# Altium schematic symbol library SchlibLafe.SchLib: 395 symbols (part 3 of 4)
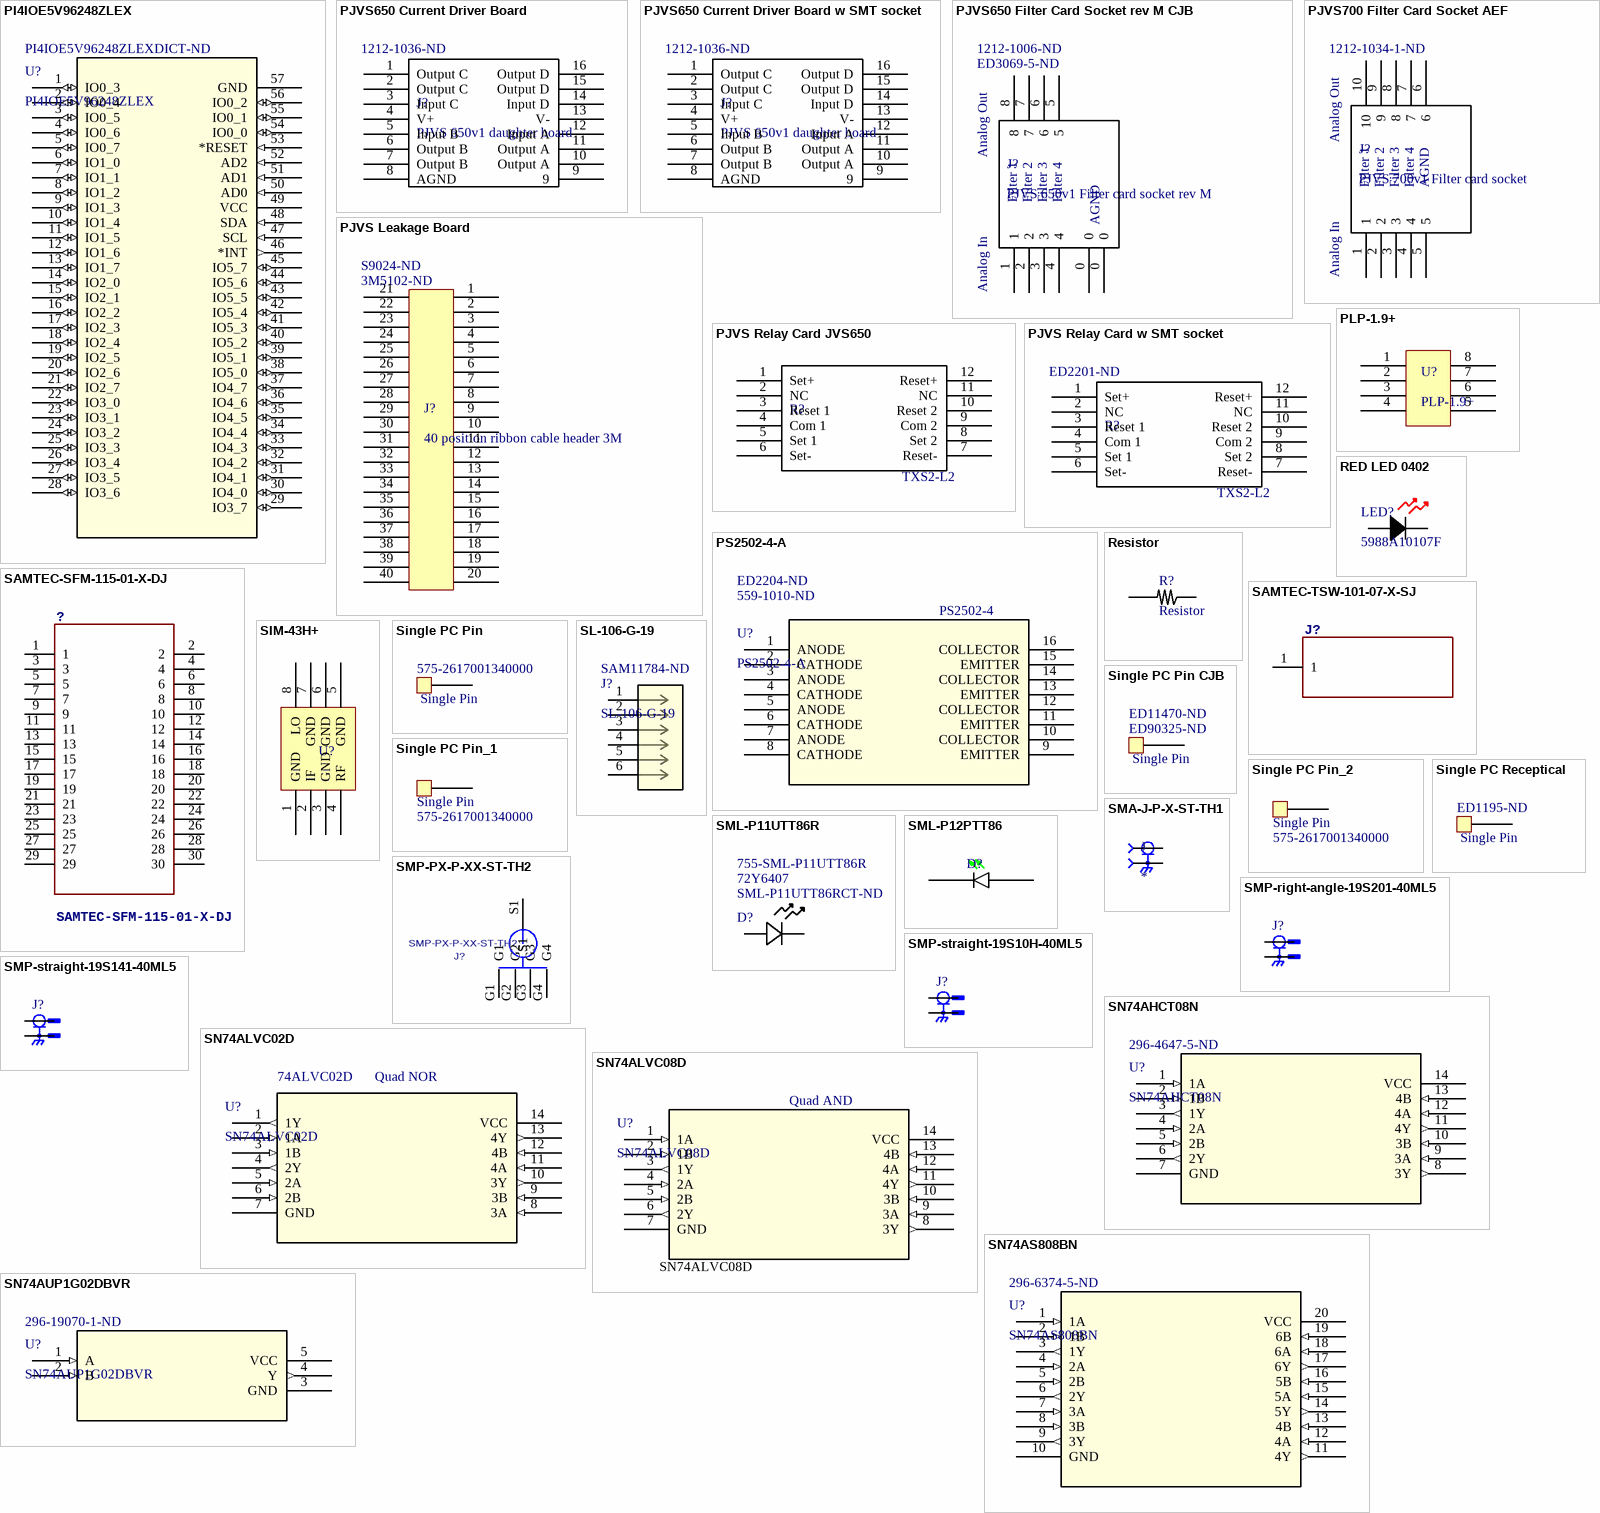
[diagram p14: symbols PI4IOE5V96248ZLEX to SN74AUP1G02DBVR]

## PI4IOE5V96248ZLEX
designator U?  Supplier Part Number 1: PI4IOE5V96248ZLEXDICT-ND
48 bit DIO expander; Vendor: Diodes Inc; Built_By: EMA_Cory; SourceLibrary: Add_to_database_2021-03-05; Datasheet: https://www.diodes.com/assets/Datasheets/PI4IOE5V96248.pdf; Manufacturer_Part_Number: PI4IOE5V96248ZLEX; Copyright: Copyright (C) 2018 Accelerated Designs. All rights reserved; RefDes: RefDes; Type: DEV; Supplier 1: Digi-Key
footprint TQFN56_ZL_DIO
pins: 1 IO0_3 (io), 2 IO0_4 (io), 3 IO0_5 (io), 4 IO0_6 (io), 5 IO0_7 (io), 6 IO1_0 (io), 7 IO1_1 (io), 8 IO1_2 (io), 9 IO1_3 (io), 10 IO1_4 (io), 11 IO1_5 (io), 12 IO1_6 (io), 13 IO1_7 (io), 14 IO2_0 (io), 15 IO2_1 (io), 16 IO2_2 (io), 17 IO2_3 (io), 18 IO2_4 (io), 19 IO2_5 (io), 20 IO2_6 (io), 21 IO2_7 (io), 22 IO3_0 (io), 23 IO3_1 (io), 24 IO3_2 (io), 25 IO3_3 (io), 26 IO3_4 (io), 27 IO3_5 (io), 28 IO3_6 (io), 29 IO3_7 (io), 30 IO4_0 (io), 31 IO4_1 (io), 32 IO4_2 (io), 33 IO4_3 (io), 34 IO4_4 (io), 35 IO4_5 (io), 36 IO4_6 (io), 37 IO4_7 (io), 38 IO5_0 (io), 39 IO5_1 (io), 40 IO5_2 (io), 41 IO5_3 (io), 42 IO5_4 (io), 43 IO5_5 (io), 44 IO5_6 (io), 45 IO5_7 (io), 46 *INT (out), 47 SCL (in), 48 SDA (in), 49 VCC (power), 50 AD0 (in), 51 AD1 (in), 52 AD2 (in), 53 *RESET (in), 54 IO0_0 (io), 55 IO0_1 (io), 56 IO0_2 (io), 57 GND

## PJVS650 Current Driver Board
designator J?, comment PJVS 650v1 daughter board  Supplier Part Number 1: 1212-1036-ND
Supplier 1: Digi-Key
footprint PJVS650 Current Driver (PJVS650 Current Driver Daughter board)
pins: 1 Output C, 2 Output C, 3 Input C, 4 V+, 5 Input B, 6 Output B, 7 Output B, 8 AGND, 9, 10 Output A, 11 Output A, 12 Input A, 13 V-, 14 Input D, 15 Output D, 16 Output D

## PJVS650 Current Driver Board w SMT socket
designator J?, comment PJVS 650v1 daughter board  Supplier Part Number 1: 1212-1036-ND
Supplier 1: Digi-Key
footprint PJVS650 Current Driver SMT (PJVS650 Current Driver Daughter board SMT)
pins: 1 Output C, 2 Output C, 3 Input C, 4 V+, 5 Input B, 6 Output B, 7 Output B, 8 AGND, 9, 10 Output A, 11 Output A, 12 Input A, 13 V-, 14 Input D, 15 Output D, 16 Output D

## PJVS650 Filter Card Socket rev M CJB
designator J?, comment PJVS 650v1 Filter card socket rev M  Supplier Part Number 1: ED3069-5-ND  Supplier Part Number 2: 1212-1006-ND
Supplier 1: Digi-Key; Supplier 2: Digi-Key
footprint PJVS650 Filter Card Socket rev M
pins: 0, 0, 1, 2, 3, 4, 5, 6, 7, 8
text: Analog Out; Filter 1; Filter 2; Filter 3; Filter 4; AGND; Analog In

## PJVS700 Filter Card Socket AEF
designator J?, comment PJVS 700v1 Filter card socket  Supplier Part Number 1: 1212-1034-1-ND
JVS700 filter with SMT socket; Supplier 1: Digi-Key
footprint PJVS650 Filter Card Socket SMT (PJVS650 Filter Card Socket with SMT)
pins: 1, 2, 3, 4, 5, 6, 7, 8, 9, 10
text: Analog Out; Filter 1; Filter 2; Filter 3; Filter 4; AGND; Analog In

## PJVS Leakage Board
designator J?, comment 40 position ribbon cable header 3M  Supplier Part Number 1: 3M5102-ND  Supplier Part Number 2: S9024-ND
ribbon cable header, 0.79mil; Supplier 1: Digi-Key; Supplier 2: Digi-Key
footprint PJVS Leakage Board (JVS650 Automated Leakage Board)
pins: 1, 2, 3, 4, 5, 6, 7, 8, 9, 10, 11, 12, 13, 14, 15, 16, 17, 18, 19, 20, 21, 22, 23, 24, 25, 26, 27, 28, 29, 30, 31, 32, 33, 34, 35, 36, 37, 38, 39, 40

## PJVS Relay Card JVS650
designator R?, comment PJVS Relay Card  (value not drawn)
footprint PJVS_relay_card (PJVS relay card)
pins: 1 Set+, 2 NC, 3 Reset 1, 4 Com 1, 5 Set 1, 6 Set-, 7 Reset-, 8 Set 2, 9 Com 2, 10 Reset 2, 11 NC, 12 Reset+
text: TXS2-L2

## PJVS Relay Card w SMT socket
designator R?, comment Supplier Part Number 1: ED2201-ND  (hidden comment: PJVS Relay Card)
Supplier 1: Digi-Key
footprint PJVS_relay_card - SMT socket A (PJVS relay card)
footprint PJVS_relay_card - SMT socket B (PJVS relay card)
pins: 1 Set+, 2 NC, 3 Reset 1, 4 Com 1, 5 Set 1, 6 Set-, 7 Reset-, 8 Set 2, 9 Com 2, 10 Reset 2, 11 NC, 12 Reset+
text: TXS2-L2

## PLP-1.9+
designator U?
Minicircuits PLP-1.9+
footprint PLP-1.9
pins: 1, 2, 3, 4, 5, 6, 7, 8

## PS2502-4-A
designator U?  Supplier Part Number 1: 559-1010-ND  Supplier Part Number 2: ED2204-ND
quad darlington optocoupler; Vendor: Renesas Electronics; Built_By: EMA_Anthony; SourceLibrary: Add_to_database_2021-03-30; Datasheet: https://www.renesas.com/us/en/document/dst/ps2502-1-ps2502-4-ps2502l-1-ps2502l-4-data-sheet; Copyright: Copyright (C) 2018 Accelerated Designs. All rights reserved; Manufacturer_Part_Number: PS2502-4-A; RefDes: RefDes; Type: DEV; Supplier 1: Digi-Key; Supplier 2: Digi-Key
footprint DIP16_socket_surfacemount
pins: 1 ANODE, 2 CATHODE, 3 ANODE, 4 CATHODE, 5 ANODE, 6 CATHODE, 7 ANODE, 8 CATHODE, 9 EMITTER, 10 COLLECTOR, 11 EMITTER, 12 COLLECTOR, 13 EMITTER, 14 COLLECTOR, 15 EMITTER, 16 COLLECTOR
text: PS2502-4

## RED LED 0402
designator LED?, comment 5988A10107F
Red 635nm LED Indication - Discrete 1.6V 0402 (1005 Metric); Mfr_Name: Dialight; Type: DEV; Notes: Cathode to line; Desc_Value: LED RED 635NM 0402 SMD; Copyright: Copyright (C) 2023 Ultra Librarian. All rights reserved.; Manufacturer_Part_Number: 5988A10107F; RefDes: RefDes; Supplier 1: Digi-Key; Supplier Part Number 1: 350-4446-1-ND; Vendor URL: https://www.digikey.com/en/products/detail/dialight/5988A10107F/10108962; Package: 0402; Mounting Type: SMT
footprint LED_5988A10107F_DIA
pins: 1, 2

## Resistor
designator R?
footprint thruhole resistor
pins: 1, 2

## SAMTEC-SFM-115-01-X-DJ
designator ?
footprint SAMTEC-SFM-115-01-X-D
pins: 1, 2, 3, 4, 5, 6, 7, 8, 9, 10, 11, 12, 13, 14, 15, 16, 17, 18, 19, 20, 21, 22, 23, 24, 25, 26, 27, 28, 29, 30

## SAMTEC-TSW-101-07-X-SJ
designator J?
footprint SAMTEC-TSW-101-07-X-S (Footprint not found)
pins: 1

## SIM-43H+
designator U?
RF Mixer IC Cellular, ISM, PCN, VSAT, WCDMA 1GHz ~ 4GHz; Supplier 1: Digi-Key; Supplier Part Number 1: 3157-SIM-43H+CT-ND
footprint SIM-43H+
pins: 1 GND, 2 IF, 3 GND, 4 RF, 5 GND, 6 GND, 7 GND, 8 LO

## Single PC Pin
designator J?, comment Single Pin  Supplier Part Number 1: 575-2617001340000
Supplier 1: Mouser
footprint Single PC Pin
pins: 1

## Single PC Pin CJB
designator J?, comment Single Pin  Supplier Part Number 1: ED90325-ND  Supplier Part Number 2: ED11470-ND
Charlie's Single Pin 20 mil; Supplier 1: Digi-Key; Supplier 2: Digi-Key
footprint Single PC Pin - duplicate
pins: 1

## Single PC Pin_1
designator J?, comment Single Pin  Supplier Part Number 1: 575-2617001340000
Supplier 1: Mouser
footprint Single PC Pin
pins: 1

## Single PC Pin_2
designator J?, comment Single Pin  Supplier Part Number 1: 575-2617001340000
Supplier 1: Mouser
footprint Single PC Pin
pins: 1

## Single PC Receptical
designator J?, comment Single Pin  Supplier Part Number 1: ED1195-ND
Supplier 1: Digi-Key
footprint Single PC Pin
pins: 1

## SL-106-G-19
designator J?  Supplier Part Number 1: SAM11784-ND
6 position female header socket; Mfr_Name: Samtec Inc; Copyright: Copyright (C) 2021 Ultra Librarian. All rights reserved.; Manufacturer_Part_Number: SL-106-G-19; Digi-Key_Part_Number_1: SAM11784-ND; RefDes: RefDes; Type: DEV; Supplier 1: Digi-Key
footprint CON6_1X6_TU_DSL_SAI
pins: 1, 2, 3, 4, 5, 6

## SMA-J-P-X-ST-TH1
designator J
SMA Connector Jack, Female Socket 50Ohm Through Hole Solder; MF: Samtec; MP: SMA-J-P-H-ST-TH1; Package: None; Value: *; Price: None; Toby_UK-Purchase-URL: https://snapeda.com/shop?store=Toby+UK&id=134499; DigiKey-Purchase-URL: https://snapeda.com/shop?store=DigiKey&id=134499; Availability: Unavailable; SnapEDA_Link: https://www.snapeda.com/parts/SMA-J-P-H-ST-TH1/Samtec%20Inc./view-part/134499/?ref=snap; Supplier 1: Newark; Supplier Part Number 1: 90W0187
footprint SAMTEC_SMA-J-P-X-ST-TH1
pins: ctr, gnd

## SML-P11UTT86R
designator D?  Supplier Part Number 1: SML-P11UTT86RCT-ND  Supplier Part Number 2: 72Y6407  Supplier Part Number 3: 755-SML-P11UTT86R  (hidden comment: SML-P11UTT86R)
Red LED 1mA; Mfr_Name: ROHM Semiconductor; Type: DEV; Copyright: Copyright (C) 2021 Ultra Librarian. All rights reserved.; Manufacturer_Part_Number: SML-P11UTT86R; Digi-Key_Part_Number_1: SML-P11UTT86RCT-ND; Digi-Key_Part_Number_2: SML-P11UTT86RDKR-ND; Digi-Key_Part_Number_3: SML-P11UTT86RTR-ND; RefDes: RefDes; Supplier 1: Digi-Key; Supplier 2: Newark; Supplier 3: Mouser
footprint LED_SML-P11D_ROM
pins: 1, 2

## SML-P12PTT86
designator D?
Green 560nm LED Indication - Discrete 2.2V 0402 (1006 Metric); Manufacturer_Part_Number: SML-P12PTT86; Mfr_name: Rohm Semiconductor; MF: {'manufacturer': u'Rohm'}; Desc_Value: LED GREEN CLEAR 1006 SMD; Notes: Cathode to dot; Package: 0402; Price: None; Value: *; Availability: Unavailable; Supplier 1: Digi-Key; Supplier Part Number 1: 846-SML-P12PTT86CT-ND; Vendor URL: https://www.digikey.com/en/products/detail/rohm-semiconductor/SML-P12PTT86/1643118; Mounting Type: SMA
footprint LED_SML-P11UTT86R
pins: A, C

## SMP-PX-P-XX-ST-TH2
designator J?
SMP THROUGH HOLE PLUG - 50 OHM.; MANUFACTURER: SAMTEC; CREATED: October 23, 2015 - Wendy Xin; PCB DECAL: SMP-PX-P-XX-ST-TH2
footprint SMP-PF-P-XX-ST-TH2
pins: G1, G2, G3, G4, S1

## SMP-right-angle-19S201-40ML5
designator J?
SMOOTH BORE SMP Connector Plug, Male Pin 50Ohm Surface Mount Solder; MP: 853050232; MF: Molex; Check_prices: https://www.snapeda.com/parts/853050232/Molex/view-part/?ref=eda; Value: *; Availability: In Stock; Price: None; Package: None; SnapEDA_Link: https://www.snapeda.com/parts/853050232/Molex/view-part/?ref=snap; Purchase-URL: https://pricing.snapeda.com/search/part/853050232/?ref=eda; Supplier 1: Mouser; Supplier Part Number 1: 476-19S201-40ML5
footprint rosenberger-19S201-40ML5
pins: 1, gnd

## SMP-straight-19S10H-40ML5
designator J?
LIMITED DETENT SMP Connector Plug, Male Pin 50Ohm Surface Mount Solder; MP: 853050232; MF: Molex; Check_prices: https://www.snapeda.com/parts/853050232/Molex/view-part/?ref=eda; Value: *; Availability: In Stock; Price: None; Package: None; SnapEDA_Link: https://www.snapeda.com/parts/853050232/Molex/view-part/?ref=snap; Purchase-URL: https://pricing.snapeda.com/search/part/853050232/?ref=eda; Supplier 1: Digikey; Supplier Part Number 1: 1868-1125-1-ND
footprint rosenberger-19S141-40ML5
pins: 1, gnd

## SMP-straight-19S141-40ML5
designator J?
SMP Connector Plug, Male Pin 50Ohm Surface Mount Solder; MP: 853050232; MF: Molex; Check_prices: https://www.snapeda.com/parts/853050232/Molex/view-part/?ref=eda; Value: *; Availability: In Stock; Price: None; Package: None; SnapEDA_Link: https://www.snapeda.com/parts/853050232/Molex/view-part/?ref=snap; Purchase-URL: https://pricing.snapeda.com/search/part/853050232/?ref=eda; Supplier 1: Mouser; Supplier Part Number 1: 476-19S201-40ML5
footprint rosenberger-19S141-40ML5
pins: 1, gnd

## SN74AHCT08N
designator U?  Supplier Part Number 1: 296-4647-5-ND
Quadruple 2-Input Positive-AND Gates; Manufacturer: Texas Instruments; INDUSTRY_STD_PKG_TYPE: PDIP; PIN_COUNT: 14; PACKAGE_DESIGNATOR: N; Datasheet_URL: http://www.ti.com/lit/gpn/SN74AHCT08; FAMILY_NAME: AND GATE; GENERIC_PART_NUMBER: SN74AHCT08; Copyright: Copyright (C) 2021 Accelerated Designs. All rights reserved; RefDes: RefDes; Type: DEV; Supplier 1: Digi-Key
footprint N14
pins: 1 1A (in), 2 1B (in), 3 1Y (out), 4 2A (in), 5 2B (in), 6 2Y (out), 7 GND (power), 8 3Y (out), 9 3A (in), 10 3B (in), 11 4Y (out), 12 4A (in), 13 4B (in), 14 VCC (power)

## SN74ALVC02D
designator U?
NOR gate; Mfr_Name: Texas Instruments; Manufacturer_Part_Number: SN74ALVC08D; Copyright: Copyright (C) 2021 Ultra Librarian. All rights reserved.; Digi-Key_Part_Number_1: 296-26433-5-ND; Digi-Key_Part_Number_2: 2156-SN74ALVC08D-ND; RefDes: RefDes; Type: DEV; Supplier 1: Avnet; Supplier 2: Avnet; Supplier Part Number 2: 74ALVC02D,118; Supplier Part Number 1: 74ALVC02D,118
footprint D14
pins: 1 1Y (out), 2 1A (in), 3 1B (in), 4 2Y (out), 5 2A (in), 6 2B (in), 7 GND (power), 8 3A (in), 9 3B (in), 10 3Y (out), 11 4A (in), 12 4B (in), 13 4Y (out), 14 VCC (power)
text: 74ALVC02D; Quad NOR

## SN74ALVC08D
designator U?
AND gate; Mfr_Name: Texas Instruments; Copyright: Copyright (C) 2021 Ultra Librarian. All rights reserved.; Digi-Key_Part_Number_1: 296-26433-5-ND; Digi-Key_Part_Number_2: 2156-SN74ALVC08D-ND; RefDes: RefDes; Type: DEV; Supplier 1: Digi-Key; Supplier Part Number 1: 296-5108-1-ND; Manufacturer_Part_Number: SN74ALVC08D
footprint D14
pins: 1 1A (in), 2 1B (in), 3 1Y (out), 4 2A (in), 5 2B (in), 6 2Y (out), 7 GND (power), 8 3Y (out), 9 3A (in), 10 3B (in), 11 4Y (out), 12 4A (in), 13 4B (in), 14 VCC (power)
text: Quad AND

## SN74AS808BN
designator U?  Supplier Part Number 1: 296-6374-5-ND
Hex 2-Input AND Drivers; Manufacturer: Texas Instruments; INDUSTRY_STD_PKG_TYPE: PDIP; FAMILY_NAME: AND GATE; PIN_COUNT: 20; PACKAGE_DESIGNATOR: N; Datasheet_URL: http://www.ti.com/lit/gpn/SN74AS808B; GENERIC_PART_NUMBER: SN74AS808B; Copyright: Copyright (C) 2021 Accelerated Designs. All rights reserved; RefDes: RefDes; Type: DEV; Supplier 1: Digi-Key
footprint N20
pins: 1 1A (in), 2 1B (in), 3 1Y (out), 4 2A (in), 5 2B (in), 6 2Y (out), 7 3A (in), 8 3B (in), 9 3Y (out), 10 GND (power), 11 4Y (out), 12 4A (in), 13 4B (in), 14 5Y (out), 15 5A (in), 16 5B (in), 17 6Y (out), 18 6A (in), 19 6B (in), 20 VCC (power)

## SN74AUP1G02DBVR
designator U?  Supplier Part Number 1: 296-19070-1-ND
Single NOR Gate; Mfr_Name: Texas Instruments; Copyright: Copyright (C) 2021 Ultra Librarian. All rights reserved.; Manufacturer_Part_Number: SN74AUP1G02DBVR; Digi-Key_Part_Number_1: 296-19070-1-ND; Digi-Key_Part_Number_2: 296-19070-2-ND; Digi-Key_Part_Number_3: 296-19070-6-ND; Digi-Key_Part_Number_4: 2156-SN74AUP1G02DBVR-ND; RefDes: RefDes; Type: DEV; Supplier 1: Digi-Key
footprint DBV5-M
pins: 1 A (in), 2 B (in), 3 GND (power), 4 Y (out), 5 VCC (power)

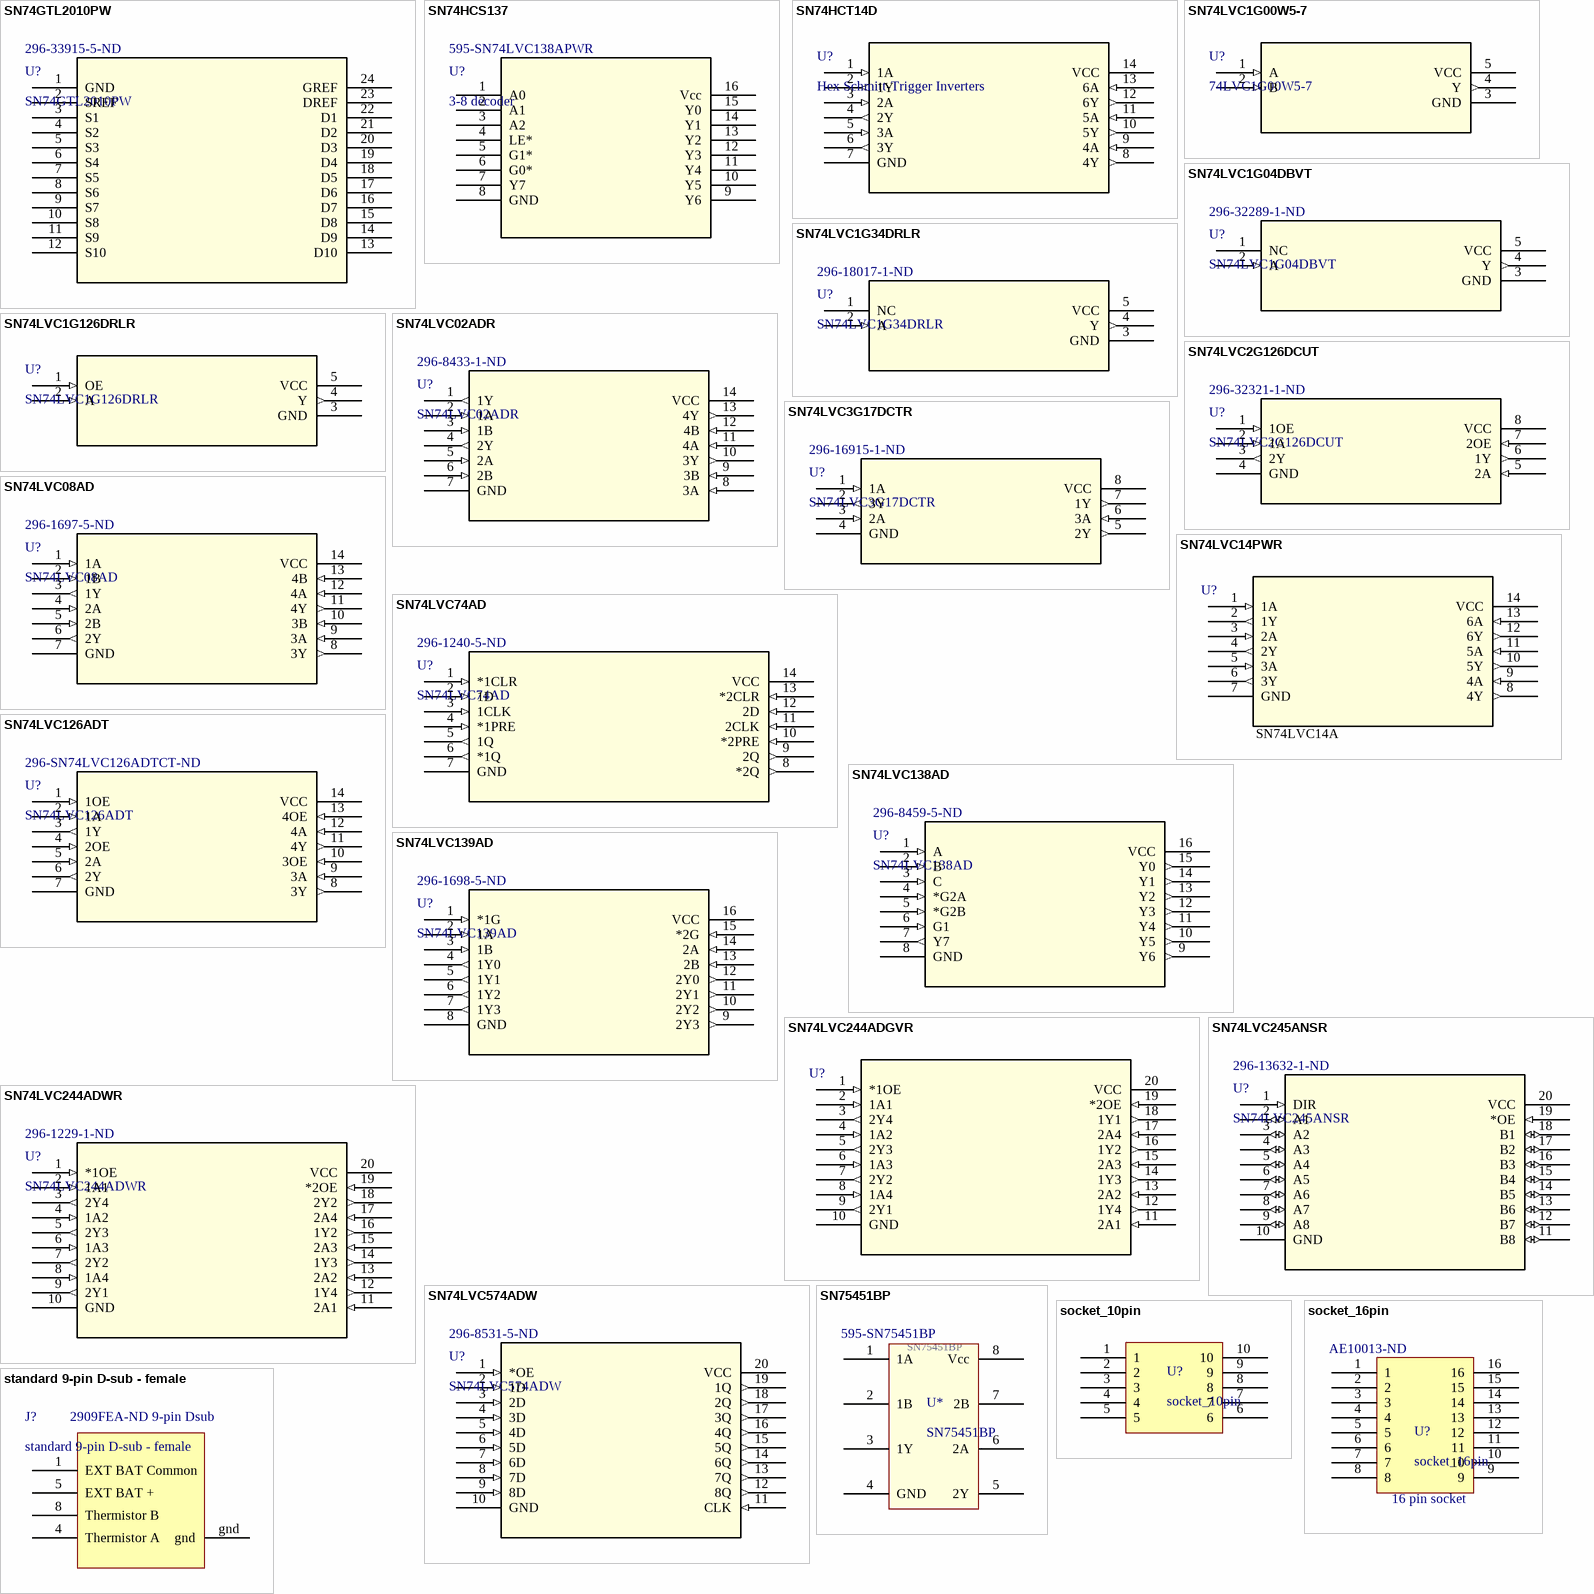
[diagram p9: symbols SN74GTL2010PW to standard 9-pin D-sub - female]

## SN74GTL2010PW
designator U?  Supplier Part Number 1: 296-33915-5-ND
10-Bit Voltage Clamp; Manufacturer: Texas Instruments; INDUSTRY_STD_PKG_TYPE: TSSOP; FAMILY_NAME: TTL/GTL/Open Drain FET Type Bidirectional Translator; PIN_COUNT: 24; PACKAGE_DESIGNATOR: PW; Datasheet_URL: http://www.ti.com/lit/gpn/SN74GTL2010; GENERIC_PART_NUMBER: SN74GTL2010; Vendor: Texas Instruments; Manufacturer_Part_Number: SN74GTL2010PW; Copyright: Copyright (C) 2021 Accelerated Designs. All rights reserved; RefDes: RefDes; Type: DEV; Supplier 1: Digi-Key
footprint PW24
pins: 1 GND (power), 2 SREF (power), 3 S1, 4 S2, 5 S3, 6 S4, 7 S5, 8 S6, 9 S7, 10 S8, 11 S9, 12 S10, 13 D10, 14 D9, 15 D8, 16 D7, 17 D6, 18 D5, 19 D4, 20 D3, 21 D2, 22 D1, 23 DREF (power), 24 GREF (power)

## SN74HCS137
designator U?, comment 3-8 decoder  Supplier Part Number 1: 595-SN74LVC138APWR
Manufacturer_Part_Number: ULN2803A; Vendor: STMicroelectronics; Built_By: EMA_UL_Team; Copyright: Copyright (C) 2018 Accelerated Designs. All rights reserved; RefDes: RefDes; Type: DEV; Value: Value; Supplier 1: Mouser
footprint TSSOP16
pins: 1 A0, 2 A1, 3 A2, 4 LE*, 5 G1*, 6 G0*, 7 Y7, 8 GND, 9 Y6, 10 Y5, 11 Y4, 12 Y3, 13 Y2, 14 Y1, 15 Y0, 16 Vcc

## SN74HCT14D
designator U?, comment Hex Schmitt-Trigger Inverters
Manufacturer: Texas Instruments; GENERIC_PART_NUMBER: SN74HCT14; INDUSTRY_STD_PKG_TYPE: SOIC; FAMILY_NAME: INVERTING BUFFER/DRIVER; PIN_COUNT: 14; PACKAGE_DESIGNATOR: D; Datasheet_URL: http://www.ti.com/lit/gpn/SN74HCT14; Copyright: Copyright (C) 2021 Accelerated Designs. All rights reserved; RefDes: RefDes; Type: DEV; Supplier 1: Digi-Key; Supplier Part Number 1: 296-8391-5-ND
footprint D14
pins: 1 1A (in), 2 1Y (out), 3 2A (in), 4 2Y (out), 5 3A (in), 6 3Y (out), 7 GND (power), 8 4Y (out), 9 4A (in), 10 5Y (out), 11 5A (in), 12 6Y (out), 13 6A (in), 14 VCC (power)

## SN74LVC1G00W5-7
designator U?, comment 74LVC1G00W5-7
Single NAND; Mfr_Name: Diodes Inc; Copyright: Copyright (C) 2021 Ultra Librarian. All rights reserved.; Manufacturer_Part_Number: 74LVC1G00W5-7; Digi-Key_Part_Number_1: 1034-74LVC1G00W5-7DICT-ND; Digi-Key_Part_Number_2: 1034-74LVC1G00W5-7DIDKR-ND; Digi-Key_Part_Number_3: 74LVC1G00W5-7DICT-ND; Digi-Key_Part_Number_4: 74LVC1G00W5-7DIDKR-ND; Digi-Key_Part_Number_5: 74LVC1G00W5-7DITR-ND; RefDes: RefDes; Type: DEV; Supplier 1: Digi-Key; Supplier Part Number 1: 74LVC1G00W5-7DICT-ND
footprint SOT25_DIO
pins: 1 A (in), 2 B (in), 3 GND (power), 4 Y (out), 5 VCC (power)

## SN74LVC1G04DBVT
designator U?  Supplier Part Number 1: 296-32289-1-ND
Single NOT gate; Mfr_Name: Texas Instruments; Copyright: Copyright (C) 2021 Ultra Librarian. All rights reserved.; Manufacturer_Part_Number: SN74LVC1G04DBVT; Digi-Key_Part_Number_1: 296-32289-1-ND; Digi-Key_Part_Number_2: 296-32289-2-ND; Digi-Key_Part_Number_3: 296-32289-6-ND; Digi-Key_Part_Number_4: 2156-SN74LVC1G04DBVT-ND; RefDes: RefDes; Type: DEV; Supplier 1: Digi-Key
footprint DBV5-M
pins: 1 NC, 2 A (in), 3 GND (power), 4 Y (out), 5 VCC (power)

## SN74LVC1G34DRLR
designator U?  Supplier Part Number 1: 296-18017-1-ND
Single Buffer Gate; Mfr_Name: Texas Instruments; Copyright: Copyright (C) 2021 Ultra Librarian. All rights reserved.; Manufacturer_Part_Number: SN74LVC1G34DRLR; Digi-Key_Part_Number_1: 296-18017-1-ND; Digi-Key_Part_Number_2: 296-18017-2-ND; Digi-Key_Part_Number_3: 296-18017-6-ND; Digi-Key_Part_Number_4: 2156-SN74LVC1G34DRLR-ND; RefDes: RefDes; Type: DEV; Supplier 1: Digi-Key
footprint DRL5
pins: 1 NC, 2 A (in), 3 GND (power), 4 Y (out), 5 VCC (power)

## SN74LVC1G126DRLR
designator U?
Single channel buffer; Mfr_Name: Texas Instruments; Copyright: Copyright (C) 2021 Ultra Librarian. All rights reserved.; Manufacturer_Part_Number: SN74LVC1G126DRLR; Digi-Key_Part_Number_1: 296-18013-1-ND; Digi-Key_Part_Number_2: 296-18013-2-ND; Digi-Key_Part_Number_3: 296-18013-6-ND; Digi-Key_Part_Number_4: 2156-SN74LVC1G126DRLR-ND; RefDes: RefDes; Type: DEV; Supplier 1: Digi-Key; Supplier Part Number 1: 296-18013-1-ND
footprint DRL5
pins: 1 OE (in), 2 A (in), 3 GND (power), 4 Y (out), 5 VCC (power)

## SN74LVC02ADR
designator U?  Supplier Part Number 1: 296-8433-1-ND
Quadruple 2-Input Positive-NOR Gate; Manufacturer: Texas Instruments; INDUSTRY_STD_PKG_TYPE: SOIC; PIN_COUNT: 14; PACKAGE_DESIGNATOR: D; Datasheet_URL: http://www.ti.com/lit/gpn/SN74LVC02A; FAMILY_NAME: NOR GATE; GENERIC_PART_NUMBER: SN74LVC02A; Copyright: Copyright (C) 2021 Accelerated Designs. All rights reserved; RefDes: RefDes; Type: DEV; Supplier 1: Digi-Key
footprint D14
pins: 1 1Y (out), 2 1A (in), 3 1B (in), 4 2Y (out), 5 2A (in), 6 2B (in), 7 GND (power), 8 3A (in), 9 3B (in), 10 3Y (out), 11 4A (in), 12 4B (in), 13 4Y (out), 14 VCC (power)

## SN74LVC2G126DCUT
designator U?  Supplier Part Number 1: 296-32321-1-ND
Dual noninverting buffer; Mfr_Name: Texas Instruments; Copyright: Copyright (C) 2021 Ultra Librarian. All rights reserved.; Manufacturer_Part_Number: SN74LVC2G126DCUT; Digi-Key_Part_Number_1: 296-32321-1-ND; Digi-Key_Part_Number_2: 296-32321-2-ND; Digi-Key_Part_Number_3: 296-32321-6-ND; Digi-Key_Part_Number_4: 2156-SN74LVC2G126DCUT-ND; RefDes: RefDes; Type: DEV; Supplier 1: Digi-Key
footprint DCU8-M
pins: 1 1OE (in), 2 1A (in), 3 2Y (out), 4 GND (power), 5 2A (in), 6 1Y (out), 7 2OE (in), 8 VCC (power)

## SN74LVC3G17DCTR
designator U?  Supplier Part Number 1: 296-16915-1-ND
non-inverting schmitt trigger; Mfr_Name: Texas Instruments; Copyright: Copyright (C) 2021 Ultra Librarian. All rights reserved.; Manufacturer_Part_Number: SN74LVC3G17DCTR; Digi-Key_Part_Number_1: 296-16915-1-ND; Digi-Key_Part_Number_2: 296-16915-2-ND; Digi-Key_Part_Number_3: 296-16915-6-ND; RefDes: RefDes; Type: DEV; Supplier 1: Digi-Key
footprint DCT8
pins: 1 1A (in), 2 3Y (out), 3 2A (in), 4 GND (power), 5 2Y (out), 6 3A (in), 7 1Y (out), 8 VCC (power)

## SN74LVC08AD
designator U?  Supplier Part Number 1: 296-1697-5-ND
Quad AND; Mfr_Name: Texas Instruments; Copyright: Copyright (C) 2021 Ultra Librarian. All rights reserved.; Manufacturer_Part_Number: SN74LVC08AD; Digi-Key_Part_Number_1: 296-1697-5-ND; Digi-Key_Part_Number_2: 2156-SN74LVC08AD-ND; RefDes: RefDes; Type: DEV; Supplier 1: Digi-Key
footprint D14
pins: 1 1A (in), 2 1B (in), 3 1Y (out), 4 2A (in), 5 2B (in), 6 2Y (out), 7 GND (power), 8 3Y (out), 9 3A (in), 10 3B (in), 11 4Y (out), 12 4A (in), 13 4B (in), 14 VCC (power)

## SN74LVC14PWR
designator U?  GENERIC_PART_NUMBER: SN74LVC14A  (hidden comment: SN74LVC14PWR)
Hex Schmitt-Trigger Inverter; Manufacturer: Texas Instruments; Manufacturer_Part_Number: SN74LVC14APW; INDUSTRY_STD_PKG_TYPE: TSSOP; FAMILY_NAME: INVERTING BUFFER/DRIVER; PIN_COUNT: 14; PACKAGE_DESIGNATOR: PW; Datasheet_URL: http://www.ti.com/lit/gpn/SN74LVC14A; Vendor: Texas Instruments; Copyright: Copyright (C) 2021 Accelerated Designs. All rights reserved; RefDes: RefDes; Type: DEV; Supplier 1: Digi-Key; Supplier Part Number 1: 296-5121-1-ND
footprint PW14
pins: 1 1A (in), 2 1Y (out), 3 2A (in), 4 2Y (out), 5 3A (in), 6 3Y (out), 7 GND (power), 8 4Y (out), 9 4A (in), 10 5Y (out), 11 5A (in), 12 6Y (out), 13 6A (in), 14 VCC (power)

## SN74LVC74AD
designator U?  Supplier Part Number 1: 296-1240-5-ND
Dual Positive-Edge-Triggered D-Type Flip-Flops With Clear and Preset; Mfr_Name: Texas Instruments; Copyright: Copyright (C) 2021 Ultra Librarian. All rights reserved.; Manufacturer_Part_Number: SN74LVC74AD; Digi-Key_Part_Number_1: 296-1240-5-ND; Digi-Key_Part_Number_2: 2156-SN74LVC74AD-ND; RefDes: RefDes; Type: DEV; Supplier 1: Digi-Key
footprint D14
pins: 1 *1CLR (in), 2 1D (in), 3 1CLK (in), 4 *1PRE (in), 5 1Q (out), 6 *1Q (out), 7 GND (power), 8 *2Q (out), 9 2Q (out), 10 *2PRE (in), 11 2CLK (in), 12 2D (in), 13 *2CLR (in), 14 VCC (power)

## SN74LVC126ADT
designator U?  Supplier Part Number 1: 296-SN74LVC126ADTCT-ND
Quad bus buffer; Mfr_Name: Texas Instruments; Manufacturer_Part_Number: SN74LVC126ADR; Copyright: Copyright (C) 2021 Ultra Librarian. All rights reserved.; Digi-Key_Part_Number_1: 296-8457-1-ND; Digi-Key_Part_Number_2: 296-8457-2-ND; Digi-Key_Part_Number_3: 296-8457-6-ND; Digi-Key_Part_Number_4: 2156-SN74LVC126ADR-ND; RefDes: RefDes; Type: DEV; Supplier 1: Digi-Key
footprint D14
pins: 1 1OE (in), 2 1A (in), 3 1Y (out), 4 2OE (in), 5 2A (in), 6 2Y (out), 7 GND (power), 8 3Y (out), 9 3A (in), 10 3OE (in), 11 4Y (out), 12 4A (in), 13 4OE (in), 14 VCC (power)

## SN74LVC138AD
designator U?  Supplier Part Number 1: 296-8459-5-ND
3:8 line decoder; Mfr_Name: Texas Instruments; Copyright: Copyright (C) 2022 Ultra Librarian. All rights reserved.; Manufacturer_Part_Number: SN74LVC138AD; Digi-Key_Part_Number_1: 296-8459-5-ND; Digi-Key_Part_Number_2: 2156-SN74LVC138AD-ND; RefDes: RefDes; Type: DEV; Supplier 1: Digi-Key
footprint D16
pins: 1 A (in), 2 B (in), 3 C (in), 4 *G2A (in), 5 *G2B (in), 6 G1 (in), 7 Y7 (out), 8 GND (power), 9 Y6 (out), 10 Y5 (out), 11 Y4 (out), 12 Y3 (out), 13 Y2 (out), 14 Y1 (out), 15 Y0 (out), 16 VCC (power)

## SN74LVC139AD
designator U?  Supplier Part Number 1: 296-1698-5-ND
2:4 line decoder; Mfr_Name: Texas Instruments; Copyright: Copyright (C) 2022 Ultra Librarian. All rights reserved.; Manufacturer_Part_Number: SN74LVC139AD; Digi-Key_Part_Number_1: 296-1698-5-ND; Digi-Key_Part_Number_2: 2156-SN74LVC139AD-ND; RefDes: RefDes; Type: DEV; Supplier 1: Digi-Key
footprint D16
pins: 1 *1G (in), 2 1A (in), 3 1B (in), 4 1Y0 (out), 5 1Y1 (out), 6 1Y2 (out), 7 1Y3 (out), 8 GND (power), 9 2Y3 (out), 10 2Y2 (out), 11 2Y1 (out), 12 2Y0 (out), 13 2B (in), 14 2A (in), 15 *2G (in), 16 VCC (power)

## SN74LVC244ADGVR
designator U?  (value not drawn)
Octal Buffer/Driver With 3-State Outputs; Manufacturer: Texas Instruments; INDUSTRY_STD_PKG_TYPE: TVSOP; FAMILY_NAME: NON-INVERTING BUFFER/DRIVER; PIN_COUNT: 20; PACKAGE_DESIGNATOR: DGV; Datasheet_URL: http://www.ti.com/lit/gpn/SN74LVC244A; GENERIC_PART_NUMBER: SN74LVC244A; Vendor: Texas Instruments; Manufacturer_Part_Number: SN74LVC244ADGVR; Copyright: Copyright (C) 2021 Accelerated Designs. All rights reserved; RefDes: RefDes; Type: DEV; Supplier 1: Digi-Key; Supplier Part Number 1: 296-8500-1-ND
footprint DGV20
pins: 1 *1OE (in), 2 1A1 (in), 3 2Y4 (out), 4 1A2 (in), 5 2Y3 (out), 6 1A3 (in), 7 2Y2 (out), 8 1A4 (in), 9 2Y1 (out), 10 GND (power), 11 2A1 (in), 12 1Y4 (out), 13 2A2 (in), 14 1Y3 (out), 15 2A3 (in), 16 1Y2 (out), 17 2A4 (in), 18 1Y1 (out), 19 *2OE (in), 20 VCC (power)

## SN74LVC244ADWR
designator U?  Supplier Part Number 1: 296-1229-1-ND
No Description Available; Mfr_Name: Texas Instruments; Copyright: Copyright (C) 2021 Ultra Librarian. All rights reserved.; Manufacturer_Part_Number: SN74LVC244ADWR; Digi-Key_Part_Number_1: 296-1229-1-ND; Digi-Key_Part_Number_2: 296-1229-2-ND; Digi-Key_Part_Number_3: 296-1229-6-ND; Digi-Key_Part_Number_4: 2156-SN74LVC244ADWR-ND; RefDes: RefDes; Type: DEV; Supplier 1: Digi-Key
footprint DW20
pins: 1 *1OE (in), 2 1A1 (in), 3 2Y4 (out), 4 1A2 (in), 5 2Y3 (out), 6 1A3 (in), 7 2Y2 (out), 8 1A4 (in), 9 2Y1 (out), 10 GND (power), 11 2A1 (in), 12 1Y4 (out), 13 2A2 (in), 14 1Y3 (out), 15 2A3 (in), 16 1Y2 (out), 17 2A4 (in), 18 2Y2 (out), 19 *2OE (in), 20 VCC (power)

## SN74LVC245ANSR
designator U?  Supplier Part Number 1: 296-13632-1-ND
Octal Bus Transceiver With 3-State Outputs; Manufacturer: Texas Instruments; INDUSTRY_STD_PKG_TYPE: SO; FAMILY_NAME: STANDARD TRANSCEIVER; PIN_COUNT: 20; PACKAGE_DESIGNATOR: NS; Datasheet_URL: http://www.ti.com/lit/gpn/SN74LVC245A; GENERIC_PART_NUMBER: SN74LVC245A; Vendor: Texas Instruments; Manufacturer_Part_Number: SN74LVC245ANSR; Copyright: Copyright (C) 2021 Accelerated Designs. All rights reserved; RefDes: RefDes; Type: DEV; Supplier 1: Digi-Key
footprint NS20
pins: 1 DIR (in), 2 A1 (io), 3 A2 (io), 4 A3 (io), 5 A4 (io), 6 A5 (io), 7 A6 (io), 8 A7 (io), 9 A8 (io), 10 GND (power), 11 B8 (io), 12 B7 (io), 13 B6 (io), 14 B5 (io), 15 B4 (io), 16 B3 (io), 17 B2 (io), 18 B1 (io), 19 *OE (in), 20 VCC (power)

## SN74LVC574ADW
designator U?  Supplier Part Number 1: 296-8531-5-ND
Octal Edge-Triggered D-Type Flip-Flop With 3-State Outputs; Manufacturer: Texas Instruments; INDUSTRY_STD_PKG_TYPE: SOIC; FAMILY_NAME: D-TYPE(3-STATE)FLIP-FLOP; PIN_COUNT: 20; PACKAGE_DESIGNATOR: DW; Datasheet_URL: http://www.ti.com/lit/gpn/SN74LVC574A; GENERIC_PART_NUMBER: SN74LVC574A; Vendor: Texas Instruments; Manufacturer_Part_Number: SN74LVC574ADW; Copyright: Copyright (C) 2021 Accelerated Designs. All rights reserved; RefDes: RefDes; Type: DEV; Supplier 1: Digi-Key
footprint DW20
pins: 1 *OE (in), 2 1D (in), 3 2D (in), 4 3D (in), 5 4D (in), 6 5D (in), 7 6D (in), 8 7D (in), 9 8D (in), 10 GND (power), 11 CLK (in), 12 8Q (out), 13 7Q (out), 14 6Q (out), 15 5Q (out), 16 4Q (out), 17 3Q (out), 18 2Q (out), 19 1Q (out), 20 VCC (power)

## SN75451BP
designator U*  Supplier Part Number 1: 595-SN75451BP
SN7545BP; Manu: TI; Voltage: 5V; P/N (Mouser): 595-SN75451BP; Package: PDIP; Supplier 1: Mouser
footprint TI-P8 (DIP, 8-Leads, Body 9.59x6.35mm, Pitch 2.54mm)
pins: 1 1A, 2 1B, 3 1Y, 4 GND, 5 2Y, 6 2A, 7 2B, 8 Vcc

## socket_10pin
designator U?
10 pin socket; Supplier 1: Digi-Key; Supplier Part Number 1: 1212-1006-ND
footprint DIP10
pins: 1, 2, 3, 4, 5, 6, 7, 8, 9, 10

## socket_16pin
designator U?  Supplier Part Number 1: AE10013-ND
16 pin socket; Supplier 1: Digi-Key
footprint DIP16_socket
pins: 1, 2, 3, 4, 5, 6, 7, 8, 9, 10, 11, 12, 13, 14, 15, 16

## standard 9-pin D-sub - female
designator J?  Supplier Part Number 1: 2909FEA-ND 9-pin Dsub
9 pin dsub; Supplier 1: Digi-Key
footprint Standard 9 pin D-sub - female (NorComp 172-E09-213R911)
3D model 172-E09-213 (PCB3D Model)
pins: 1 EXT BAT Common, 2 hidden, 3 hidden, 4 Thermistor A, 5 EXT BAT +, 6 hidden, 7 hidden, 8 Thermistor B, 9 hidden, gnd

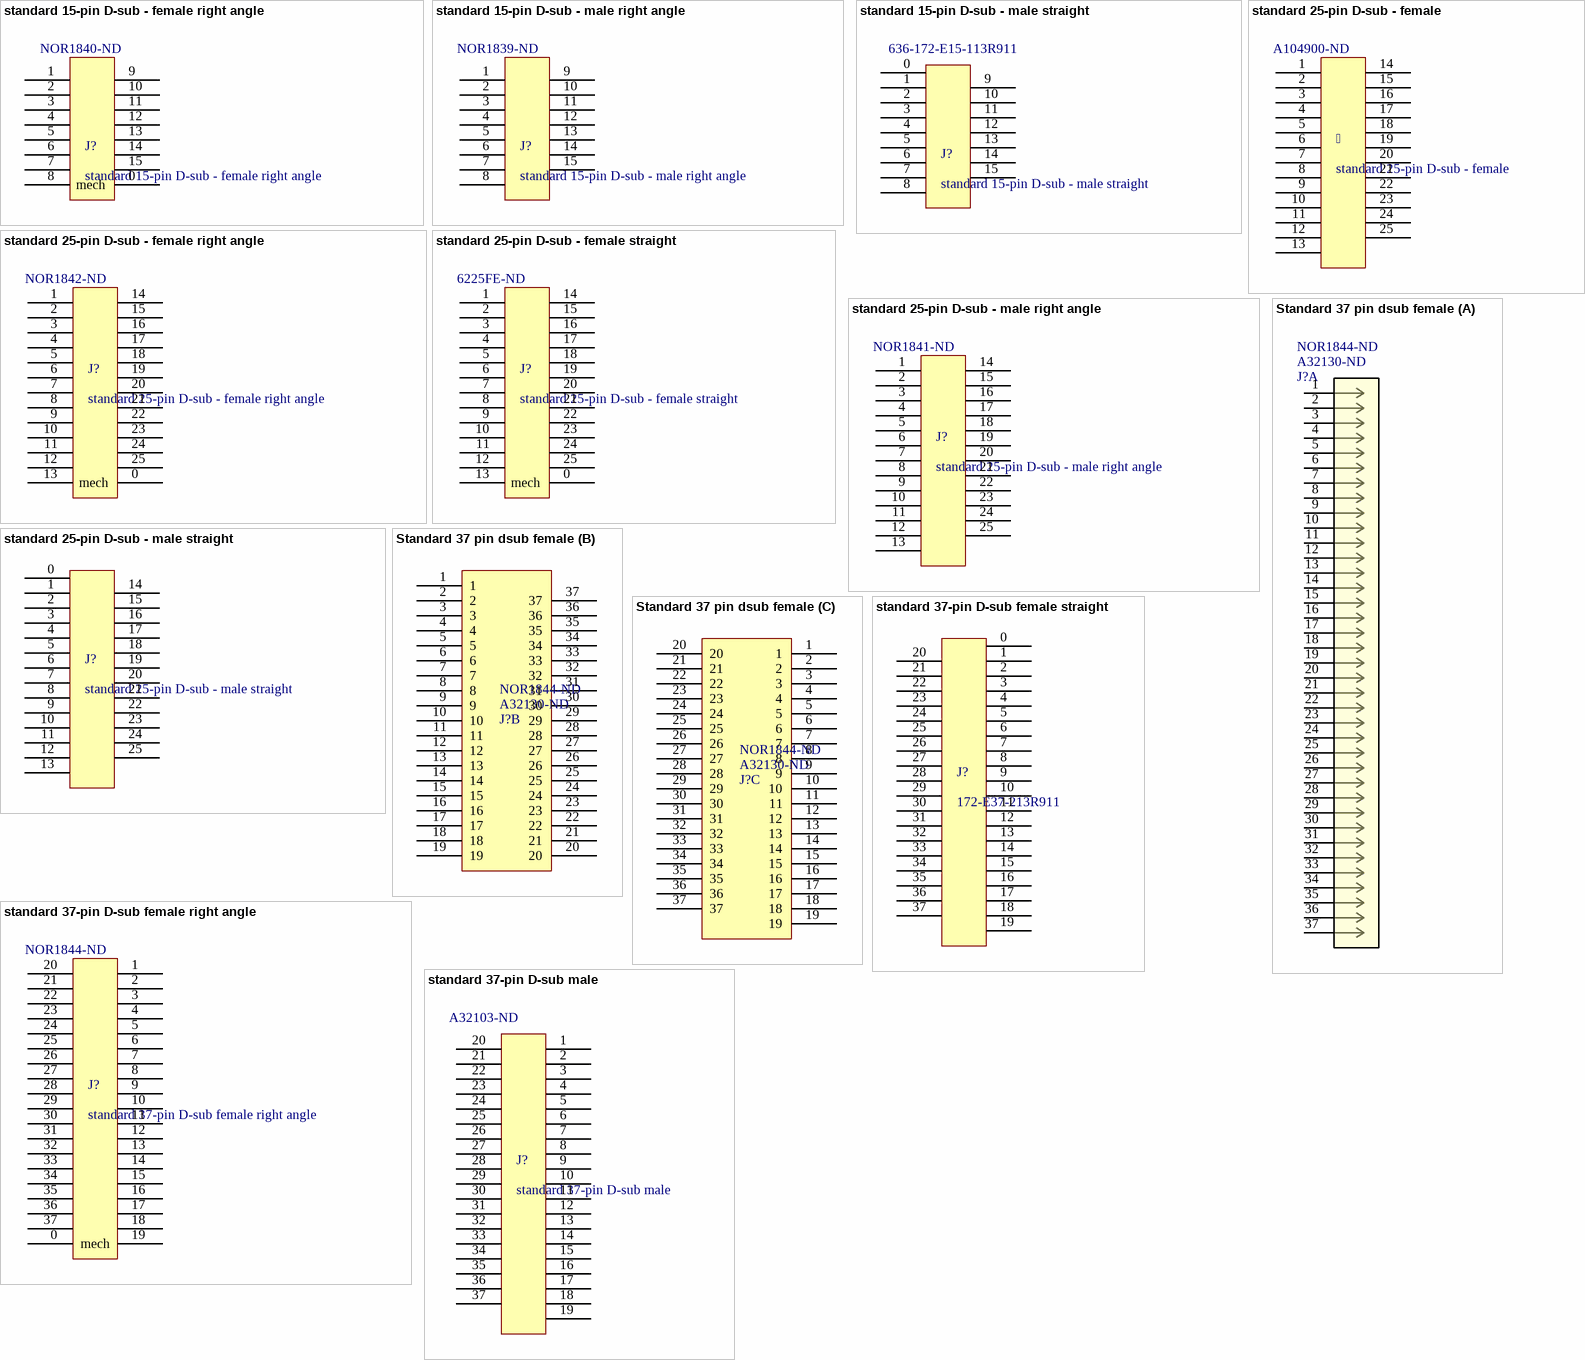
[diagram p10: symbols standard 15-pin D-sub - female right angle to standard 37-pin D-sub male]

## standard 15-pin D-sub - female right angle
designator J?  Supplier Part Number 1: NOR1840-ND
15 pin dsub - female right angle; Supplier 1: Digi-Key
footprint CONN15_173-E15-R461 female (15-pin Dsub Female right angle)
pins: 0 mech, 1, 2, 3, 4, 5, 6, 7, 8, 9, 10, 11, 12, 13, 14, 15

## standard 15-pin D-sub - male right angle
designator J?  Supplier Part Number 1: NOR1839-ND
15 pin dsub - male right angle; Supplier 1: Digi-Key
footprint CONN15_173-E15-R461 male (15-pin Dsub male right angle)
pins: 1, 2, 3, 4, 5, 6, 7, 8, 9, 10, 11, 12, 13, 14, 15

## standard 15-pin D-sub - male straight
designator J?  Supplier Part Number 1: 636-172-E15-113R911
15 pin dsub - male striaght; Supplier 1: Mouser
footprint CONN15_172-015-113R911 male (15-pin Dsub male straight)
pins: 0, 1, 2, 3, 4, 5, 6, 7, 8, 9, 10, 11, 12, 13, 14, 15

## standard 25-pin D-sub - female
designator   Supplier Part Number 1: A104900-ND
25 pin dsub - female right angle; Supplier 1: Digi-Key
footprint 25-pin Dsub female (25-pin Dsub Female)
pins: 1, 2, 3, 4, 5, 6, 7, 8, 9, 10, 11, 12, 13, 14, 15, 16, 17, 18, 19, 20, 21, 22, 23, 24, 25

## standard 25-pin D-sub - female right angle
designator J?  Supplier Part Number 1: NOR1842-ND
CONN D-SUB RCPT 25POS R/A SLDR; Supplier 1: Digi-Key
footprint CONN25_173-E25-213R461 (25-pin Dsub Female right angle)
pins: 0 mech, 1, 2, 3, 4, 5, 6, 7, 8, 9, 10, 11, 12, 13, 14, 15, 16, 17, 18, 19, 20, 21, 22, 23, 24, 25

## standard 25-pin D-sub - female straight
designator J?  Supplier Part Number 1: 6225FE-ND
25 pin dsub - female straight; Supplier 1: Digi-Key
footprint CONN25_172-025-213R021 (25-pin Dsub Female straight)
pins: 0 mech, 1, 2, 3, 4, 5, 6, 7, 8, 9, 10, 11, 12, 13, 14, 15, 16, 17, 18, 19, 20, 21, 22, 23, 24, 25

## standard 25-pin D-sub - male right angle
designator J?  Supplier Part Number 1: NOR1841-ND
25 Position D-Sub Plug, Male Pins Connector; Supplier 1: Digi-Key
footprint CONN_773_E25 (25 pin maie right angle)
pins: 1, 2, 3, 4, 5, 6, 7, 8, 9, 10, 11, 12, 13, 14, 15, 16, 17, 18, 19, 20, 21, 22, 23, 24, 25

## standard 25-pin D-sub - male straight
designator J?
25 pin dsub - male straight; Supplier 1: Digi-Key; Supplier Part Number 1: 2925MEA-ND
footprint CONN25_172-E25-113R911 Male (25 pin maie straight)
pins: 0, 1, 2, 3, 4, 5, 6, 7, 8, 9, 10, 11, 12, 13, 14, 15, 16, 17, 18, 19, 20, 21, 22, 23, 24, 25

## Standard 37 pin dsub female
designator J?, comment Supplier Part Number 1: A32130-ND  Supplier Part Number 2: NOR1844-ND  (hidden comment: Part Number: 5747847-6)
37 Position D-Sub Receptacle, Female Sockets Connector; Vendor: TE Connectivity; Built_By: EMA_UL_Team; Manufacturer_Part_Number: 5747847-6; Copyright: Copyright (C) 2018 Accelerated Designs. All rights reserved; RefDes: RefDes; Type: DEV; Value: Value; Supplier 1: Digi-Key; Supplier 2: Digi-Key
footprint CONN37_5747847-6 (Female 37pin dsub)
part A pins: 1, 2, 3, 4, 5, 6, 7, 8, 9, 10, 11, 12, 13, 14, 15, 16, 17, 18, 19, 20, 21, 22, 23, 24, 25, 26, 27, 28, 29, 30, 31, 32, 33, 34, 35, 36, 37
part B pins: 1, 2, 3, 4, 5, 6, 7, 8, 9, 10, 11, 12, 13, 14, 15, 16, 17, 18, 19, 20, 21, 22, 23, 24, 25, 26, 27, 28, 29, 30, 31, 32, 33, 34, 35, 36, 37
part C pins: 1, 2, 3, 4, 5, 6, 7, 8, 9, 10, 11, 12, 13, 14, 15, 16, 17, 18, 19, 20, 21, 22, 23, 24, 25, 26, 27, 28, 29, 30, 31, 32, 33, 34, 35, 36, 37

## standard 37-pin D-sub female right angle
designator J?  Supplier Part Number 1: NOR1844-ND
37 Position D-Sub Receptacle, Female Sockets Connector; Supplier 1: Digi-Key
footprint CONN37_173-E37-213R461 (Female 37pin dsub)
pins: 0 mech, 1, 2, 3, 4, 5, 6, 7, 8, 9, 10, 11, 12, 13, 14, 15, 16, 17, 18, 19, 20, 21, 22, 23, 24, 25, 26, 27, 28, 29, 30, 31, 32, 33, 34, 35, 36, 37

## standard 37-pin D-sub female straight
designator J?, comment 172-E37-213R911
37 pin dsub; Supplier 1: Digi-Key; Supplier Part Number 1: 2937FEA-ND
footprint CONN37_172-E37-213R911 (Female 37pin dsub)
pins: 0, 1, 2, 3, 4, 5, 6, 7, 8, 9, 10, 11, 12, 13, 14, 15, 16, 17, 18, 19, 20, 21, 22, 23, 24, 25, 26, 27, 28, 29, 30, 31, 32, 33, 34, 35, 36, 37

## standard 37-pin D-sub male
designator J?  Supplier Part Number 1: A32103-ND
37 pin dsub; Supplier 1: Digi-Key; manufacturer: *; manufacturer part number: *
footprint 37-pin D-sub, right angle, male (37 pin d-sub, right angle, male)
pins: 1, 2, 3, 4, 5, 6, 7, 8, 9, 10, 11, 12, 13, 14, 15, 16, 17, 18, 19, 20, 21, 22, 23, 24, 25, 26, 27, 28, 29, 30, 31, 32, 33, 34, 35, 36, 37

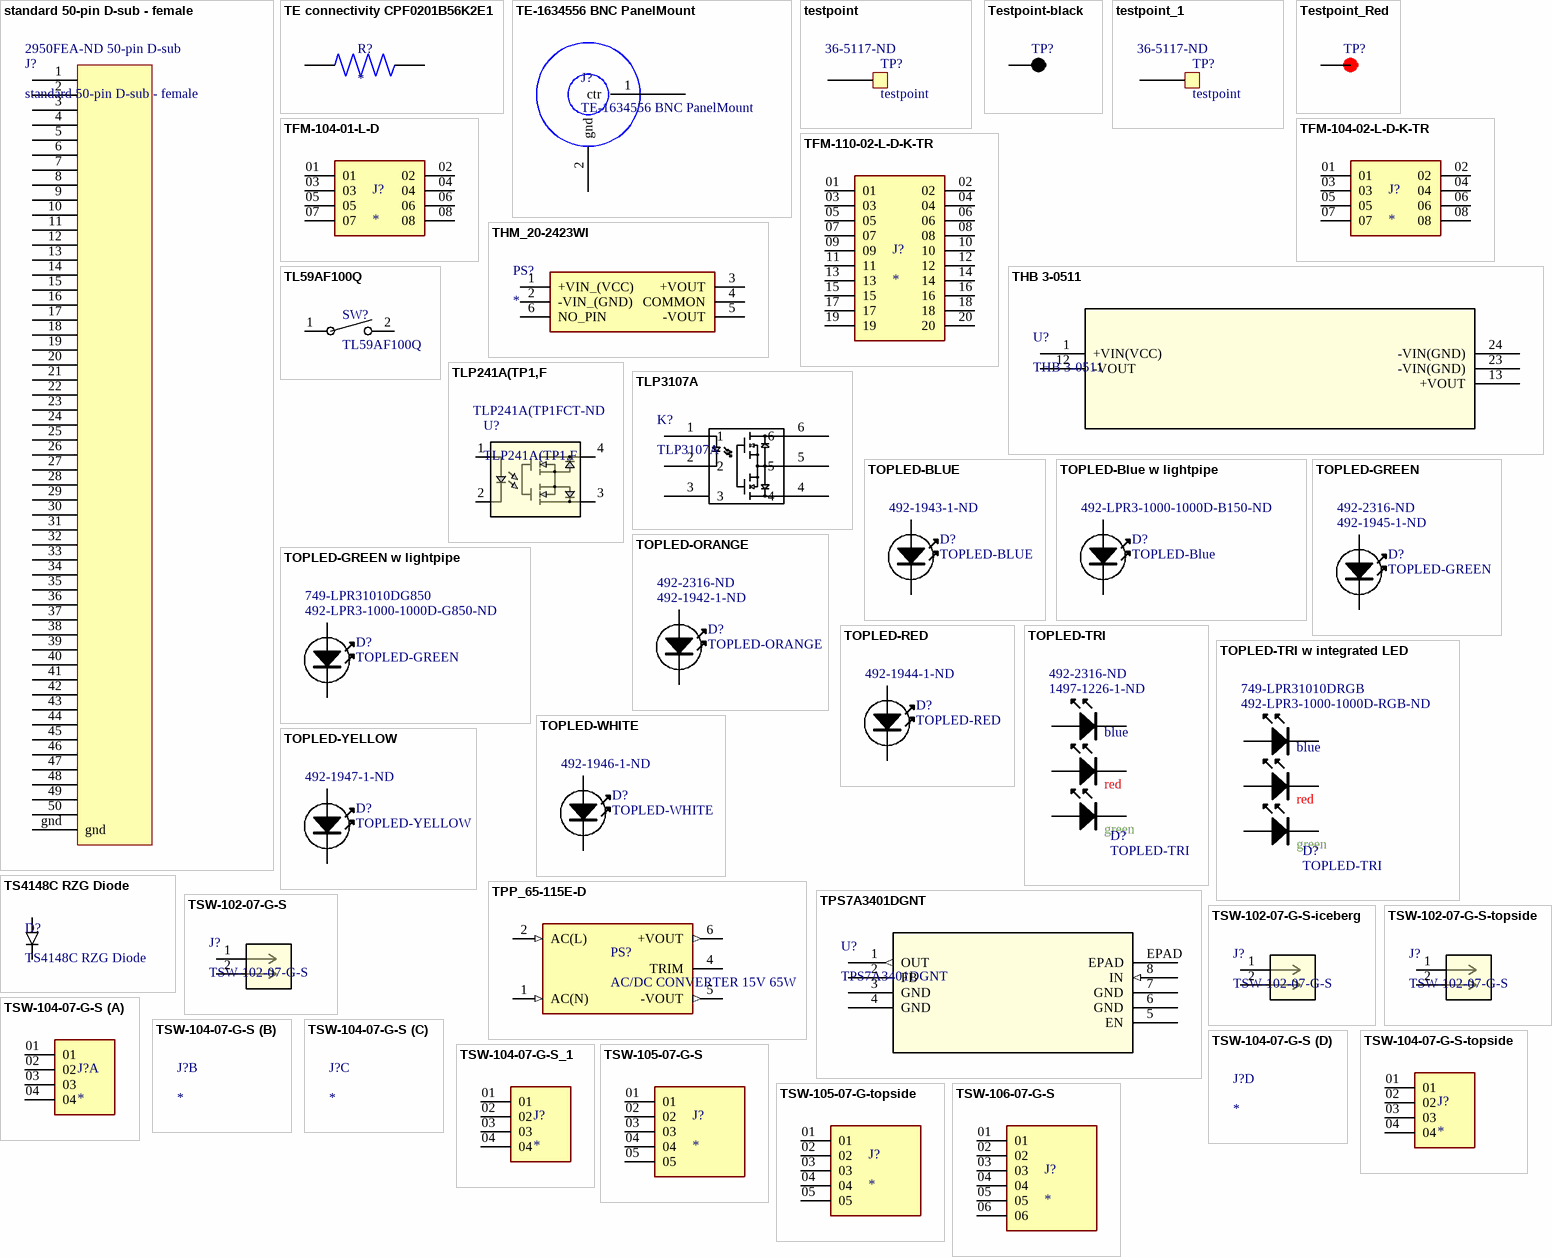
[diagram p11: symbols standard 50-pin D-sub - female to TSW-106-07-G-S]

## standard 50-pin D-sub - female
designator J?  Supplier Part Number 1: 2950FEA-ND 50-pin D-sub
50 pin dsub; Supplier 1: Digi-Key
footprint Standard 50 pin D-sub - female (NorComp 172-E50-213R911)
3D model 172-E50-213 (PCB3D Model)
pins: 1, 2, 3, 4, 5, 6, 7, 8, 9, 10, 11, 12, 13, 14, 15, 16, 17, 18, 19, 20, 21, 22, 23, 24, 25, 26, 27, 28, 29, 30, 31, 32, 33, 34, 35, 36, 37, 38, 39, 40, 41, 42, 43, 44, 45, 46, 47, 48, 49, 50, gnd

## TE connectivity CPF0201B56K2E1
designator R?
CPF 0201 56K2 0.1% 25PPM 1K RL; Mfgr Part No.: CPF0201B56K2E1; MP: ERJ1GN0R00C; Value: 56k; Mfgr: TE connectivity; Availability: Unavailable; Price: None; Package: None
footprint RES_ERJ1GN0R00C
footprint 0201-resistor
pins: 1, 2

## TE-1634556 BNC PanelMount
designator J?
BNC
footprint TE-1634556 (Right Angle BNC Panelmount)
pins: 1 ctr, 2 gnd

## testpoint
designator TP?  Supplier Part Number 1: 36-5117-ND
Supplier 1: Digi-Key
footprint Testpoint (testpoint)
pins: 1

## Testpoint-black
designator TP?
Black PC Test Point, Compact Phosphor Bronze Silver Plating Through Hole Mounting Type; Manufacturer_Part_Number: 5006; Mfr_name: Keystone; MF: {'manufacturer': u'Keystone Electronics Corp.'}; Package: Single pin; Price: None; Value: *; Availability: Unavailable; Supplier 1: Digi-Key; Supplier Part Number 1: 36-5006-ND; Desc_Value: Black PC Test Point, Compact Phosphor Bronze Silver Plating Through Hole Mounting Type; Vendor URL: https://www.digikey.com/en/products/detail/keystone-electronics/5006/255330; Mounting Type: Thruhole
footprint KEYSTONE_5006
pins: TP

## testpoint_1
designator TP?, comment testpoint  Supplier Part Number 1: 36-5117-ND
Supplier 1: Digi-Key
footprint Testpoint - duplicate (testpoint)
pins: 1

## Testpoint_Red
designator TP?
Red PC Test Point, Compact Phosphor Bronze Silver Plating Through Hole Mounting Type; Manufacturer_Part_Number: 5005; Mfr_name: Keystone; Desc_Value: PC TEST POINT COMPACT RED; Package: Single pin; Price: None; Value: *; Supplier 1: Digi-Key; Supplier Part Number 1: 36-5005-ND; Vendor URL: https://www.digikey.com/en/products/detail/keystone-electronics/5005/255329; Mounting Type: Thruhole
footprint KEYSTONE_5005
pins: TP

## TFM-104-01-L-D
designator J?
MP: TFM-104-01-L-D; MF: Samtec; Price: None; Package: None; Value: *; Availability: Unavailable
footprint SAMTEC_TFM-104-01-L-D
pins: 01, 02, 03, 04, 05, 06, 07, 08

## TFM-104-02-L-D-K-TR
designator J?
MF: Samtec; MP: TFM-104-02-L-D-K-TR; Package: None; Price: None; Availability: Unavailable; Value: *
footprint SAMTEC_TFM-104-02-L-D-K-TR
pins: 01, 02, 03, 04, 05, 06, 07, 08

## TFM-110-02-L-D-K-TR
designator J?
MF: Samtec; MP: TFM-110-02-L-D-K-TR; Availability: Unavailable; Value: *; Package: None; Price: None
footprint SAMTEC_TFM-110-02-L-D-K-TR
pins: 01, 02, 03, 04, 05, 06, 07, 08, 09, 10, 11, 12, 13, 14, 15, 16, 17, 18, 19, 20

## THB 3-0511
designator U?
DC DC CONVERTER 5V 3WIsolated Module DC DC Converter 1 Output 5V 600mA 4.5V - 9V Input; Mfr_Name: Traco Power; Copyright: Copyright (C) 2022 Ultra Librarian. All rights reserved.; Manufacturer_Part_Number: THB 3-0511; Digi-Key_Part_Number_1: 1951-2232-ND; RefDes: RefDes; Type: DEV
footprint THB 3 SINGLE_TRP
pins: 1 +VIN(VCC) (power), 12 -VOUT (power), 13 +VOUT (power), 23 -VIN(GND), 24 -VIN(GND)

## THM_20-2423WI
designator PS?
Isolated Module DC DC Converter 2 Output 15V -15V 667mA, 667mA 9V - 36V Input; Manufacturer_Name: Traco Power; Manufacturer_Part_Number: THM 20-2423WI; Datasheet Link: https://tracopower.com/thm20wi-datasheet/; Height: 10mm; Supplier 1: Digi-Key; Supplier 2: Mouser; Supplier Part Number 1: THM20-2423WI-ND; Supplier Part Number 2: 495-THM20-2423WI
footprint THM202413WI
pins: 1 +VIN_(VCC), 2 -VIN_(GND), 3 +VOUT, 4 COMMON, 5 -VOUT, 6 NO_PIN

## TL59AF100Q
designator SW?
No Description Available; Mfr_Name: E-Switch; Copyright: Copyright (C) 2024 Ultra Librarian. All rights reserved.; Manufacturer_Part_Number: TL59AF100Q; RefDes: RefDes; Type: DEV
footprint SW_TL59AF100Q_EWI
pins: 1, 2

## TLP241A(TP1,F
designator U?  Supplier Part Number 1: TLP241A(TP1FCT-ND
SS relay; Mfr_Name: Toshiba Electronic Devices & Storage Co.; Number_devices_in_Package: 1; Copyright: Copyright (C) 2022 Ultra Librarian. All rights reserved.; Manufacturer_Part_Number: TLP241A(TP1,F; Digi-Key_Part_Number_1: TLP241A(TP1FTR-ND; Digi-Key_Part_Number_2: TLP241A(TP1FCT-ND; Digi-Key_Part_Number_3: TLP241A(TP1FDKR-ND; RefDes: RefDes; Type: DEV; Source_Package: TLP241A; Supplier 1: Digi-Key
footprint 11-5B201S_TOS
pins: 1, 2, 3, 4

## TLP3107A
designator K?
solid state relay; Mfr_Name: Omron; Manufacturer_Part_Number: G3VM-21ER; Copyright: Copyright (C) 2022 Ultra Librarian. All rights reserved.; RefDes: RefDes; Type: DEV; Supplier 1: Digi-Key; Supplier Part Number 1: 264-TLP3107A(TPFCT-ND
footprint SOP6
pins: 1, 2, 3, 4, 5, 6

## TOPLED-BLUE
designator D?  Supplier Part Number 1: 492-1943-1-ND
Manufacturer: Kingbright Corp; Manufacturer Part Number: AA3528APBC/A; Supplier 1: Digi-Key
footprint TOPLED-BLUE
pins: A, K

## TOPLED-Blue w lightpipe
designator D?, comment TOPLED-Blue  Supplier Part Number 1: 492-LPR3-1000-1000D-B150-ND
TOPLED-Blue w integrated lightpipe; Supplier 1: Digi-Key
footprint LPR3-withLED (Bivar lightpipe integrated LED)
pins: 1, 2

## TOPLED-GREEN
designator D?  Supplier Part Number 1: 492-1945-1-ND  Supplier Part Number 2: 492-2316-ND
Supplier 1: Digi-Key; Supplier 2: Digi-Key
footprint TOPLED-RED
pins: 1, 2

## TOPLED-GREEN w lightpipe
designator D?, comment TOPLED-GREEN  Supplier Part Number 1: 492-LPR3-1000-1000D-G850-ND  Supplier Part Number 2: 749-LPR31010DG850
Supplier 1: Digi-Key; Supplier 2: Mouser
footprint LPR3-withLED (Bivar lightpipe integrated LED)
pins: 1, 2

## TOPLED-ORANGE
designator D?  Supplier Part Number 1: 492-1942-1-ND  Supplier Part Number 2: 492-2316-ND
Reel: D13; Supplier 1: Digi-Key; Supplier 2: Digi-Key
footprint TOPLED-ORANGE
pins: 1, 2

## TOPLED-RED
designator D?  Supplier Part Number 1: 492-1944-1-ND
Manufacturer: OSRAM Opto Semiconductors Inc; Manufacturer Part Number: LS T676-Q1R2-1-Z; Reel: D13; Supplier 1: Digi-Key
footprint TOPLED-RED
pins: A, K

## TOPLED-TRI
designator D?  Supplier Part Number 1: 1497-1226-1-ND  Supplier Part Number 2: 492-2316-ND
Supplier 1: Digi-Key; Supplier 2: Digi-Key
footprint topLED-tricolor
pins: 1, 2, 3, 4, 5, 6
text: blue; red; green

## TOPLED-TRI w integrated LED
designator D?, comment TOPLED-TRI  Supplier Part Number 1: 492-LPR3-1000-1000D-RGB-ND  Supplier Part Number 2: 749-LPR31010DRGB
Supplier 1: Digi-Key; Supplier 2: Mouser
footprint LPR3-withLED (Bivar lightpipe integrated LED)
pins: 1, 2, 2, 2, 3, 4
text: blue; red; green

## TOPLED-WHITE
designator D?  Supplier Part Number 1: 492-1946-1-ND
Supplier 1: Digi-Key
footprint TOPLED-WHITE
pins: A, K

## TOPLED-YELLOW
designator D?  Supplier Part Number 1: 492-1947-1-ND
Manufacturer Part Number: LY T676-S1T1-26-Z; Manufacturer: OSRAM Opto Semiconductors Inc; Supplier 1: Digi-Key
footprint TOPLED-YELLOW
pins: A, K

## TPP_65-115E-D
designator PS?, comment AC/DC CONVERTER 15V 65W
Enclosed AC DC Converters 1 Output 15V 4.34A 85 ~ 264 VAC, 100 ~ 240 VAC, 120 ~ 370 VDC Input; MP: TPP_65-115E-D; MF: {'manufacturer': u'TRACO Power'}; Price: None; Package: None; Value: *; Availability: Unavailable; Supplier 1: Digi-Key; Supplier Part Number 1: 1951-TPP65-115E-D-ND
footprint CONV_TPP_65-115E-D
pins: 1 AC(N) (in), 2 AC(L) (in), 4 TRIM, 5 -VOUT (out), 6 +VOUT (out)

## TPS7A3401DGNT
designator U?
IC REG LIN NEG ADJ 200MA 8HVSSOP; Mfr_Name: Texas Instruments; Copyright: Copyright (C) 2022 Ultra Librarian. All rights reserved.; Manufacturer_Part_Number: TPS7A3401DGNT; Digi-Key_Part_Number_1: 296-29296-1-ND; Digi-Key_Part_Number_2: 296-29296-2-ND; Digi-Key_Part_Number_3: 296-29296-6-ND; Digi-Key_Part_Number_4: 2156-TPS7A3401DGNT-ND; RefDes: RefDes; Type: Type; Supplier 1: Digi-Key; Supplier Part Number 1: 296-29296-1-ND
footprint DGN8_1P89X1P57
pins: 1 OUT (out), 2 FB, 3 GND (power), 4 GND (power), 5 EN, 6 GND (power), 7 GND (power), 8 IN (in), EPAD

## TS4148C RZG Diode
designator D?
0603 diode; Supplier 1: Mouser; Supplier Part Number 1: 821-TS4148C
footprint 0603-diode (diode 0603)
pins: 1, 2

## TSW-102-07-G-S
designator J?
No Description Available; Mfr_Name: Samtec Inc; Copyright: Copyright (C) 2024 Ultra Librarian. All rights reserved.; Manufacturer_Part_Number: TSW-102-07-G-S; RefDes: RefDes; Type: DEV
footprint CON2_1X2_TU_TSW
pins: 1, 2

## TSW-102-07-G-S-iceberg
designator J?, comment TSW-102-07-G-S
No Description Available; Mfr_Name: Samtec Inc; Copyright: Copyright (C) 2024 Ultra Librarian. All rights reserved.; Manufacturer_Part_Number: TSW-102-07-G-S; RefDes: RefDes; Type: DEV
footprint TSW-102-07-G-S-iceberg
pins: 1, 2

## TSW-102-07-G-S-topside
designator J?, comment TSW-102-07-G-S
No Description Available; Mfr_Name: Samtec Inc; Copyright: Copyright (C) 2024 Ultra Librarian. All rights reserved.; Manufacturer_Part_Number: TSW-102-07-G-S; RefDes: RefDes; Type: DEV
footprint TSW-102-07-G-S-topside
pins: 1, 2

## TSW-104-07-G-S
designator J?
<a href="https://pricing.snapeda.com/parts/TSW-104-07-G-S/Samtec/view-part?ref=eda">Check availability</a>; MP: altium_native_batch; Package: None; Price: None; Value: *; Availability: Unavailable
footprint SAMTEC_TSW-104-07-G-S
part A pins: 01, 02, 03, 04

## TSW-104-07-G-S-topside
designator J?
<a href="https://pricing.snapeda.com/parts/TSW-104-07-G-S/Samtec/view-part?ref=eda">Check availability</a>; MP: altium_native_batch; Package: None; Price: None; Value: *; Availability: Unavailable
footprint SAMTEC_TSW-104-07-G-S-topside
pins: 01, 02, 03, 04

## TSW-104-07-G-S_1
designator J?
<a href="https://pricing.snapeda.com/parts/TSW-104-07-G-S/Samtec/view-part?ref=eda">Check availability</a>; MP: altium_native_batch; Package: None; Price: None; Value: *; Availability: Unavailable
footprint SAMTEC_TSW-104-07-G-S
pins: 01, 02, 03, 04

## TSW-105-07-G-S
designator J?
MP: TSW-105-07-G-S; MF: Samtec Inc.; Package: None; Price: None; Availability: Unavailable; Value: *
footprint SAMTEC_TSW-105-07-G-S
pins: 01, 02, 03, 04, 05

## TSW-105-07-G-topside
designator J?
MP: TSW-105-07-G-S; MF: Samtec Inc.; Package: None; Price: None; Availability: Unavailable; Value: *
footprint SAMTEC_TSW-105-07-G-S-topside
pins: 01, 02, 03, 04, 05

## TSW-106-07-G-S
designator J?
MF: Samtec Inc.; MP: TSW-106-07-G-S; Value: *; Availability: Unavailable; Price: None; Package: None
footprint SAMTEC_TSW-106-07-G-S
pins: 01, 02, 03, 04, 05, 06

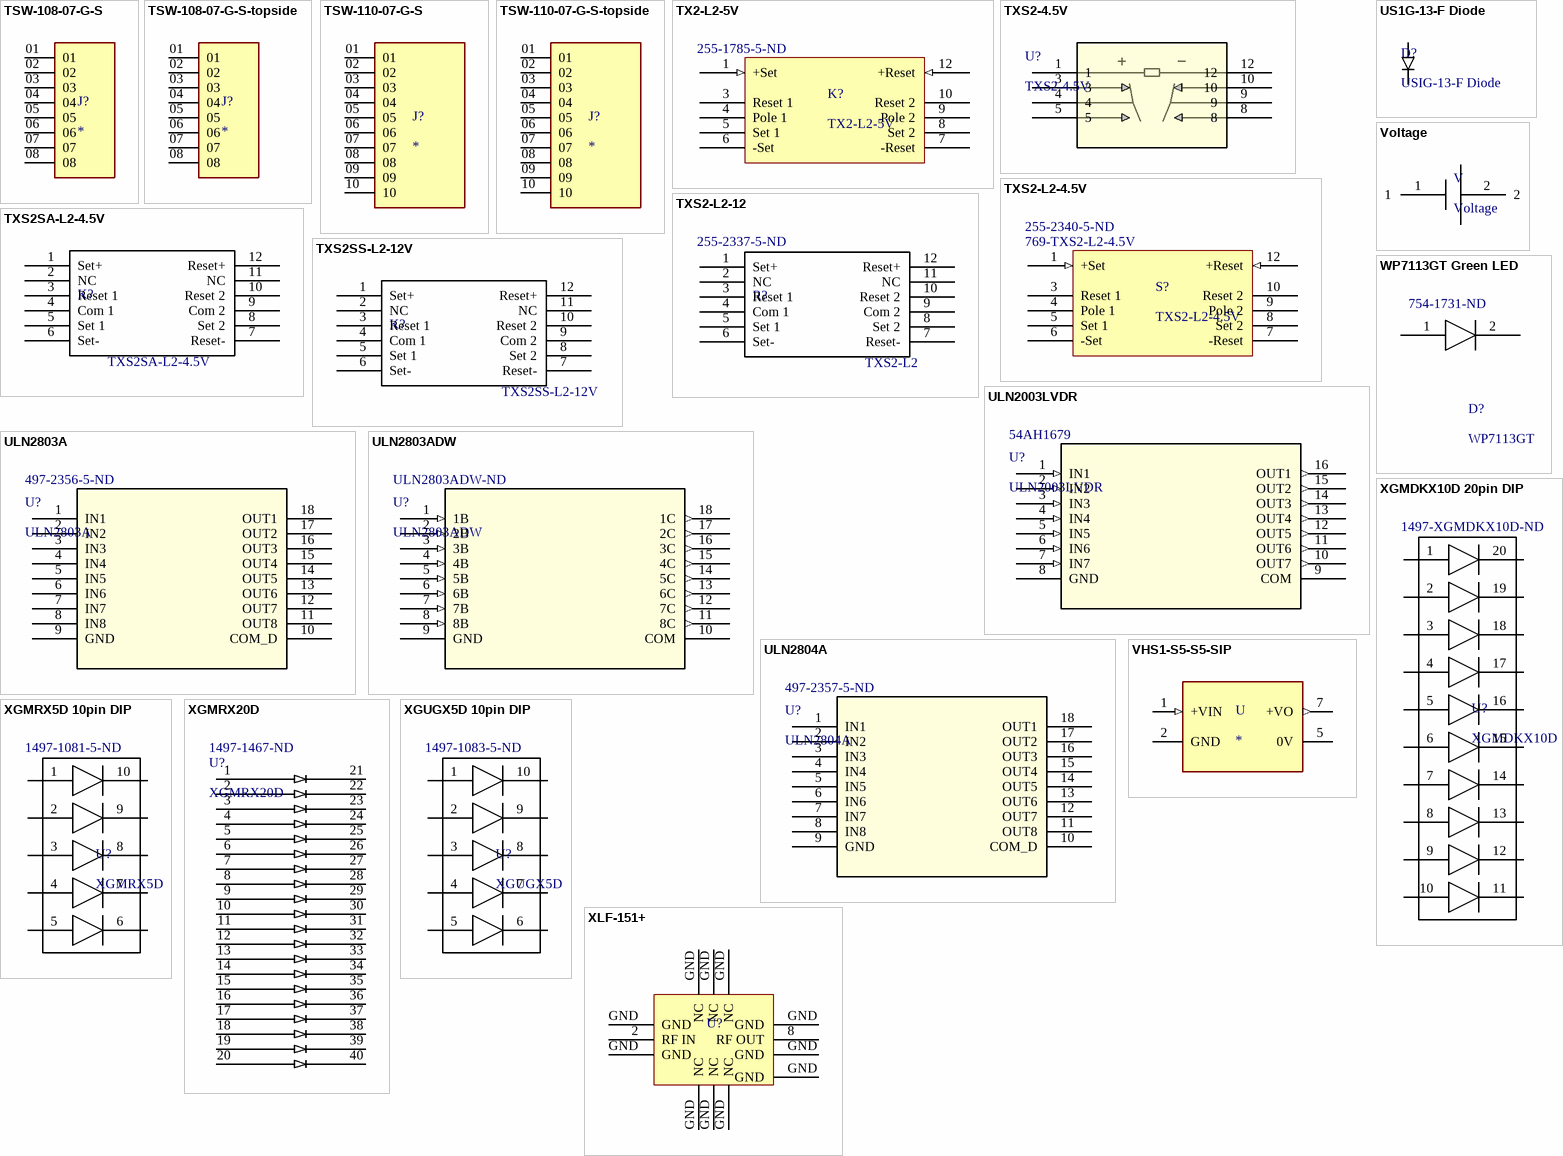
[diagram p12: symbols TSW-108-07-G-S to XLF-151+]

## TSW-108-07-G-S
designator J?
TSW - Samtec 2.54mm Pin Header 10.92mm Overall Pin Length (07) - Fast Stock; MF: Samtec Inc.; MP: TSW-108-07-G-S; SnapEDA_Link: https://www.snapeda.com/parts/TSW-108-07-G-S/Samtec+Inc./view-part/?ref=snap; Package: None; Value: *; Check_prices: https://www.snapeda.com/parts/TSW-108-07-G-S/Samtec+Inc./view-part/?ref=eda
footprint SAMTEC_TSW-108-07-G-S
pins: 01, 02, 03, 04, 05, 06, 07, 08

## TSW-108-07-G-S-topside
designator J?
TSW - Samtec 2.54mm Pin Header 10.92mm Overall Pin Length (07) - Fast Stock; MF: Samtec Inc.; MP: TSW-108-07-G-S; SnapEDA_Link: https://www.snapeda.com/parts/TSW-108-07-G-S/Samtec+Inc./view-part/?ref=snap; Package: None; Value: *; Check_prices: https://www.snapeda.com/parts/TSW-108-07-G-S/Samtec+Inc./view-part/?ref=eda
footprint SAMTEC_TSW-108-07-G-S-topside
pins: 01, 02, 03, 04, 05, 06, 07, 08

## TSW-110-07-G-S
designator J?
MF: Samtec Inc.; MP: TSW-110-07-G-S; Package: None; Price: None; Value: *; Availability: Unavailable
footprint SAMTEC_TSW-110-07-G-S
pins: 01, 02, 03, 04, 05, 06, 07, 08, 09, 10

## TSW-110-07-G-S-topside
designator J?
MF: Samtec Inc.; MP: TSW-110-07-G-S; Package: None; Price: None; Value: *; Availability: Unavailable
footprint SAMTEC_TSW-110-07-G-S
pins: 01, 02, 03, 04, 05, 06, 07, 08, 09, 10

## TX2-L2-5V
designator K?  Supplier Part Number 1: 255-1785-5-ND
Relay; Supplier 1: Digi-Key
footprint Relay-L2 (L2-TXS2L2)
pins: 1 +Set (in), 2 No Connect hidden, 3 Reset 1, 4 Pole 1, 5 Set 1, 6 -Set (power), 7 -Reset (power), 8 Set 2, 9 Pole 2, 10 Reset 2, 11 No Connect hidden, 12 +Reset (in)

## TXS2-4.5V
designator U?
No Description Available; Vendor: Panasonic; Built_By: EMA_Justin; SourceLibrary: Panasonic_2020-01-02; Copyright: Copyright (C) 2018 Accelerated Designs. All rights reserved; Manufacturer_Part_Number: TXS2-4.5V; RefDes: RefDes; Type: DEV
footprint RELAY_TXS2-4.5V_PAN
pins: 1, 3, 4, 5, 8, 9, 10, 12

## TXS2-L2-4.5V
designator S?  Supplier Part Number 1: 769-TXS2-L2-4.5V  Supplier Part Number 2: 255-2340-5-ND
Relay; Supplier 1: Mouser; Supplier 2: Digi-Key
footprint Relay-L2 (L2-TXS2L2)
pins: 1 +Set (in), 2 No Connect hidden, 3 Reset 1, 4 Pole 1, 5 Set 1, 6 -Set (power), 7 -Reset (power), 8 Set 2, 9 Pole 2, 10 Reset 2, 11 No Connect hidden, 12 +Reset (in)

## TXS2-L2-12
designator R?, comment Supplier Part Number 1: 255-2337-5-ND  (hidden comment: PJVS Relay Card)
Relay; Supplier 1: Digi-Key
footprint Relay-L2 - JVS700 (L2-TXS2L2)
pins: 1 Set+, 2 NC, 3 Reset 1, 4 Com 1, 5 Set 1, 6 Set-, 7 Reset-, 8 Set 2, 9 Com 2, 10 Reset 2, 11 NC, 12 Reset+
text: TXS2-L2

## TXS2SA-L2-4.5V
designator K?, comment SMT Dual Coil Latching Relay  (value not drawn)
Relay; Supplier 1: Digi-Key; Supplier 2: Mouser; Supplier Part Number 1: 255-2348-5-ND; Supplier Part Number 2: 769-TXS2SA-L2-4.5V
footprint TXS Relay SMT (SMT)
pins: 1 Set+, 2 NC, 3 Reset 1, 4 Com 1, 5 Set 1, 6 Set-, 7 Reset-, 8 Set 2, 9 Com 2, 10 Reset 2, 11 NC, 12 Reset+

## TXS2SS-L2-12V
designator K?, comment SMT Dual Coil Latching Relay  (value not drawn)
Relay; Supplier 1: Digi-Key; Supplier 2: Mouser; Supplier 3: Digi-Key; Supplier Part Number 3: 255-2345-5-ND; Supplier Part Number 2: 769-TXS2SS-L2-12V; Supplier Part Number 1: 255-5285-5-ND
footprint TXS Relay SMT (SMT)
footprint Relay-L2 (L2-TXS2L2)
pins: 1 Set+, 2 NC, 3 Reset 1, 4 Com 1, 5 Set 1, 6 Set-, 7 Reset-, 8 Set 2, 9 Com 2, 10 Reset 2, 11 NC, 12 Reset+

## ULN2003LVDR
designator U?  Supplier Part Number 1: 54AH1679
7 Ch darlington 16 SOIC; Mfr_Name: Texas Instruments; Copyright: Copyright (C) 2021 Ultra Librarian. All rights reserved.; Manufacturer_Part_Number: ULN2003LVDR; Digi-Key_Part_Number_1: 296-30403-1-ND; Digi-Key_Part_Number_2: 296-30403-2-ND; Digi-Key_Part_Number_3: 296-30403-6-ND; Digi-Key_Part_Number_4: 2156-ULN2003LVDR-ND; RefDes: RefDes; Type: DEV; Supplier 1: Newark
footprint D16_TEX
pins: 1 IN1 (in), 2 IN2 (in), 3 IN3 (in), 4 IN4 (in), 5 IN5 (in), 6 IN6 (in), 7 IN7 (in), 8 GND (power), 9 COM, 10 OUT7 (out), 11 OUT6 (out), 12 OUT5 (out), 13 OUT4 (out), 14 OUT3 (out), 15 OUT2 (out), 16 OUT1 (out)

## ULN2803A
designator U?  Supplier Part Number 1: 497-2356-5-ND
8 Channel Darlington; Vendor: STMicroelectronics; Built_By: EMA_UL_Team; Manufacturer_Part_Number: ULN2803A; Copyright: Copyright (C) 2018 Accelerated Designs. All rights reserved; RefDes: RefDes; Type: DEV; Value: Value; Supplier 1: Digi-Key
footprint DIP18
pins: 1 IN1, 2 IN2, 3 IN3, 4 IN4, 5 IN5, 6 IN6, 7 IN7, 8 IN8, 9 GND (power), 10 COM_D, 11 OUT8, 12 OUT7, 13 OUT6, 14 OUT5, 15 OUT4, 16 OUT3, 17 OUT2, 18 OUT1

## ULN2803ADW
designator U?  Supplier Part Number 1: ULN2803ADW-ND
8 Ch Darlington SOIC pkg; Manufacturer_Part_Number: ULN2803ADWRG4; Manufacturer: Texas Instruments; Built_By: EMA_UL_Team; Vendor: Vendor; Copyright: Copyright (C) 2018 Accelerated Designs. All rights reserved; RefDes: RefDes; Type: DEV; Supplier 1: Digi-Key
footprint DW18
pins: 1 1B (in), 2 2B (in), 3 3B (in), 4 4B (in), 5 5B (in), 6 6B (in), 7 7B (in), 8 8B (in), 9 GND, 10 COM, 11 8C (out), 12 7C (out), 13 6C (out), 14 5C (out), 15 4C (out), 16 3C (out), 17 2C (out), 18 1C (out)

## ULN2804A
designator U?  Supplier Part Number 1: 497-2357-5-ND
8 Channel Darlington; Manufacturer_Part_Number: ULN2803A; Vendor: STMicroelectronics; Built_By: EMA_UL_Team; Copyright: Copyright (C) 2018 Accelerated Designs. All rights reserved; RefDes: RefDes; Type: DEV; Value: Value; Supplier 1: Digi-Key
footprint DIP18
pins: 1 IN1, 2 IN2, 3 IN3, 4 IN4, 5 IN5, 6 IN6, 7 IN7, 8 IN8, 9 GND (power), 10 COM_D, 11 OUT8, 12 OUT7, 13 OUT6, 14 OUT5, 15 OUT4, 16 OUT3, 17 OUT2, 18 OUT1

## US1G-13-F Diode
designator D?, comment USIG-13-F Diode
SMA Diode / general purpose / 400V , 1A; Supplier 1: Digi-Key; Supplier Part Number 1: US1G-FDICT-ND
footprint SMA_DIO
pins: 1, 2

## VHS1-S5-S5-SIP
designator U
1 W, 1:1 Input Range, Single Unregulated Output, 7 Pin SIP, 6000 Vdc Isolation, Dc-Dc Converter; MP: VHS1-S5-S5-SIP; MF: CUI Inc.; Availability: Unavailable; SnapEDA_Link: https://www.snapeda.com/parts/VHS1-S5-S5-SIP/CUI/view-part/1030776/?ref=snap; Package: SIP-7 CUI; Value: *; CUI_purchase_URL: https://www.cui.com/product/dc-dc-converters/isolated/vhs1-sip-series?utm_source=snapeda.com&utm_medium=referral&utm_campaign=snapedaBOM; Price: None; Supplier 1: Digi-Key; Supplier Part Number 1: 102-1449-ND
footprint CONV_VHS1-S5-S5-SIP
pins: 1 +VIN (in), 2 GND (power), 5 0V (power), 7 +VO (out)

## Voltage
designator V
Voltage Source
simulation model Model Name (Model Description)
pins: 1, 2

## WP7113GT Green LED
designator D?, comment WP7113GT  Supplier Part Number 1: 754-1731-ND
green LED; Supplier 1: Digi-Key
footprint throughhole0.100" LED silkscreen (0.100" wide, 0.040" hole diameter)
pins: 1, 2

## XGMDKX10D 20pin DIP
designator U?, comment XGMDKX10D  Supplier Part Number 1: 1497-XGMDKX10D-ND
10 segment red bar LED; Supplier 1: Digi-Key
footprint DIP20
pins: 1, 2, 3, 4, 5, 6, 7, 8, 9, 10, 11, 12, 13, 14, 15, 16, 17, 18, 19, 20

## XGMRX5D 10pin DIP
designator U?, comment XGMRX5D  Supplier Part Number 1: 1497-1081-5-ND
5 segment red bar LED; Supplier 1: Digi-Key
footprint DIP-10 2.5mm pitch (DIP10 2.5mm pitch)
pins: 1, 2, 3, 4, 5, 6, 7, 8, 9, 10

## XGMRX20D
designator U?  Supplier Part Number 1: 1497-1467-ND
20 LED bar graph; Mfr_Name: SunLED; Copyright: Copyright (C) 2022 Ultra Librarian. All rights reserved.; Manufacturer_Part_Number: XGMRX20D; Digi-Key_Part_Number_1: 1497-1467-ND; RefDes: RefDes; Type: DEV; Supplier 1: Digi-Key
footprint CONN40_RX20D_SLD
pins: 1, 2, 3, 4, 5, 6, 7, 8, 9, 10, 11, 12, 13, 14, 15, 16, 17, 18, 19, 20, 21, 22, 23, 24, 25, 26, 27, 28, 29, 30, 31, 32, 33, 34, 35, 36, 37, 38, 39, 40